# Altium integrated library Renesas Microcontroller R8C.IntLib: 628 symbols (part 27 of 33)
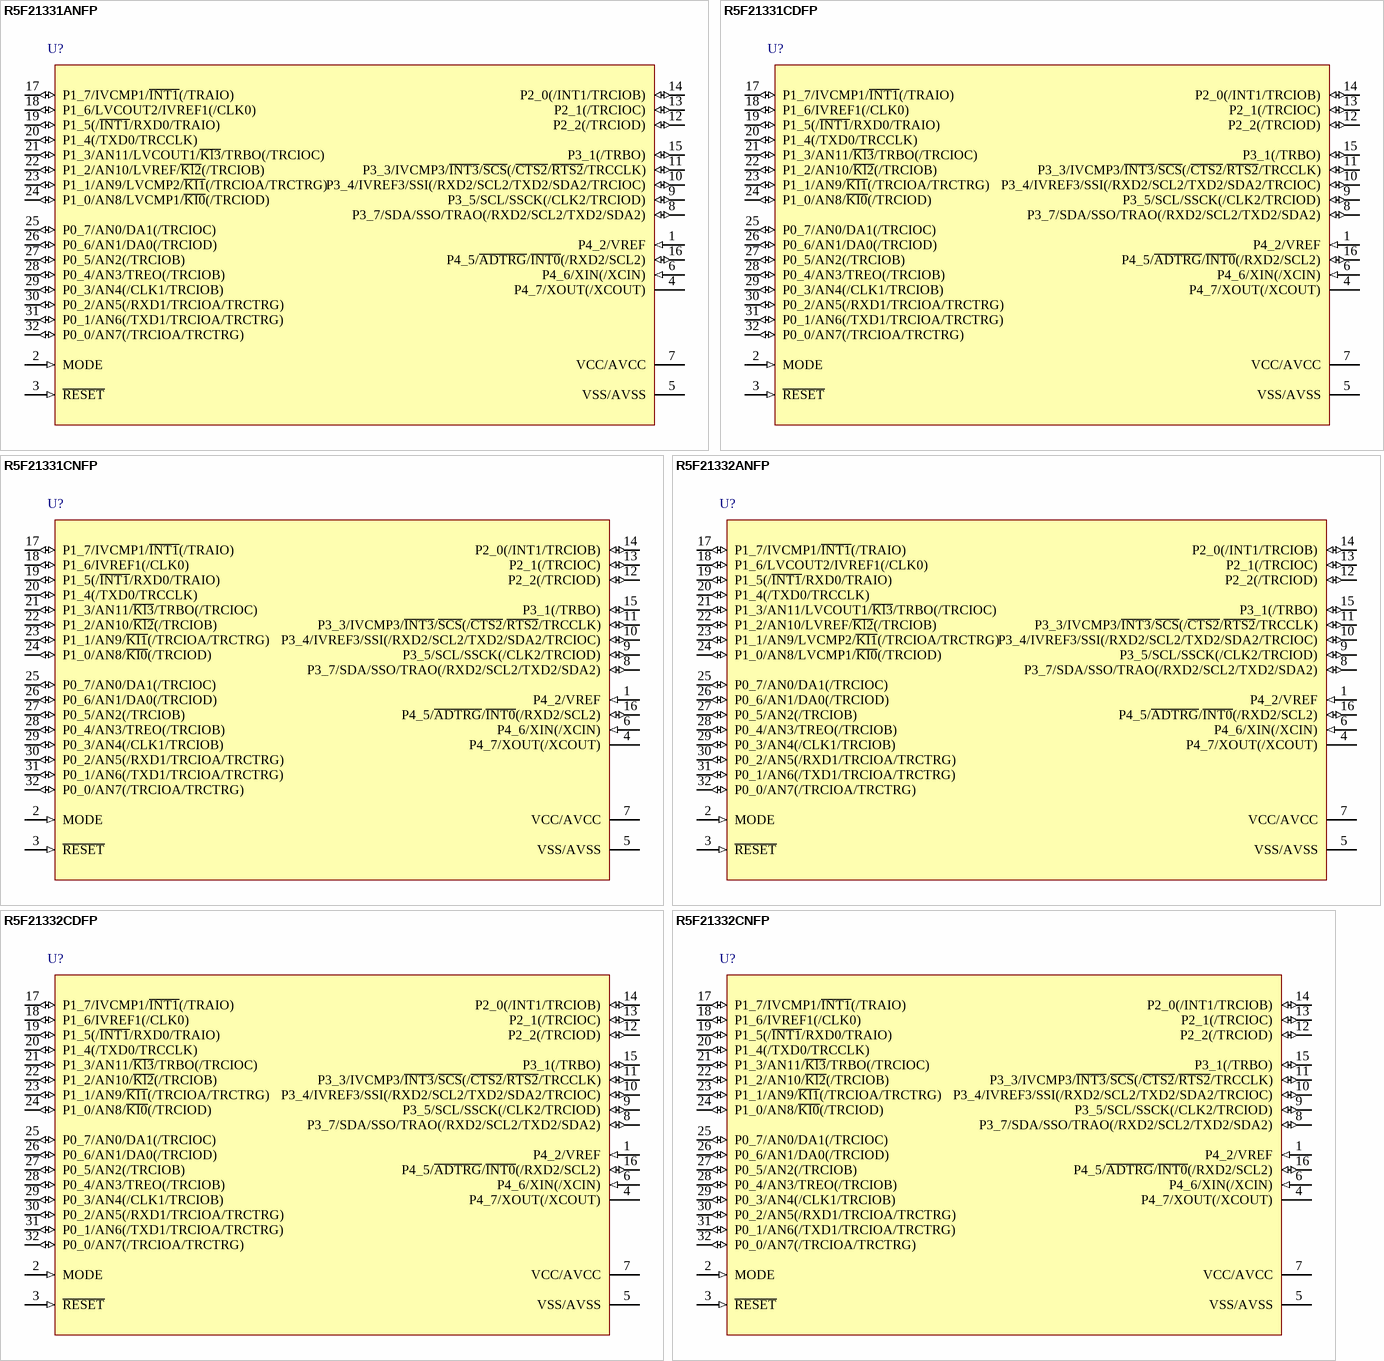
[diagram p142: symbols R5F21331ANFP to R5F21332CNFP]

## R5F21331CNFP
designator U?
R8C/33C Group Single Chip 16-Bit CMOS MCU, 4K + 4K ROM, 512b RAM, N Version; Published: 17-Feb-2010; DatasheetVersion: Rev.1.00, Dec-2009; PackageVersion: Oct-2005; PackageReference: PLQP0032GB-A; Publisher: Altium Limited; PackageDescription: 32-Pin Plastic Low Profile QFP, 7 x 7 x 1.4 mm Body, 0.8 mm Pitch; Code_JEITA: P-LQFP32-7x7-0.80; ComponentLink1Description: Manufacturer Link; ComponentLink1URL: http://sg.renesas.com/fmwk.jsp?cnt=r8c_family_landing.jsp&fp=/products/mpumcu/r8c_family/; ComponentLink2Description: Datasheet; ComponentLink2URL: http://documentation.renesas.com/eng/products/mpumcu/rej09b0570_r8c33chm.pdf; ComponentLink3Description: Packaging Specification; ComponentLink3URL: http://sg.renesas.com/media/products/common_info/package/pdf/ic/code/plqp0032gb_a.pdf
footprint PLQP0032GB-A_N (QFP, 32-Leads, Body 7x7mm, Pitch 0.8mm, IPC Medium Density)
footprint PLQP0032GB-A_L (QFP, 32-Leads, Body 7x7mm, Pitch 0.8mm, IPC High Density)
footprint PLQP0032GB-A_M (QFP, 32-Leads, Body 7x7mm, Pitch 0.8mm, IPC Low Density)
pins: 1 P4_2/VREF (in), 2 MODE (in), 3 ~{RESET} (in), 4 P4_7/XOUT(/XCOUT), 5 VSS/AVSS (power), 6 P4_6/XIN(/XCIN) (in), 7 VCC/AVCC (power), 8 P3_7/SDA/SSO/TRAO(/RXD2/SCL2/TXD2/SDA2) (io), 9 P3_5/SCL/SSCK(/CLK2/TRCIOD) (io), 10 P3_4/IVREF3/SSI(/RXD2/SCL2/TXD2/SDA2/TRCIOC) (io), 11 P3_3/IVCMP3/~{INT3}/~{SCS}(/~{CTS2}/~{RTS2}/TRCCLK) (io), 12 P2_2(/TRCIOD) (io), 13 P2_1(/TRCIOC) (io), 14 P2_0(/INT1/TRCIOB) (io), 15 P3_1(/TRBO) (io), 16 P4_5/~{ADTRG}/~{INT0}(/RXD2/SCL2) (io), 17 P1_7/IVCMP1/~{INT1}(/TRAIO) (io), 18 P1_6/IVREF1(/CLK0) (io), 19 P1_5(/~{INT1}/RXD0/TRAIO) (io), 20 P1_4(/TXD0/TRCCLK) (io), 21 P1_3/AN11/~{Kl3}/TRBO(/TRCIOC) (io), 22 P1_2/AN10/~{Kl2}(/TRCIOB) (io), 23 P1_1/AN9/~{KI1}(/TRCIOA/TRCTRG) (io), 24 P1_0/AN8/~{KI0}(/TRCIOD) (io), 25 P0_7/AN0/DA1(/TRCIOC) (io), 26 P0_6/AN1/DA0(/TRCIOD) (io), 27 P0_5/AN2(/TRCIOB) (io), 28 P0_4/AN3/TREO(/TRCIOB) (io), 29 P0_3/AN4(/CLK1/TRCIOB) (io), 30 P0_2/AN5(/RXD1/TRCIOA/TRCTRG) (io), 31 P0_1/AN6(/TXD1/TRCIOA/TRCTRG) (io), 32 P0_0/AN7(/TRCIOA/TRCTRG) (io)

## R5F21332ANFP
designator U?
R8C/33A Group Single Chip 16-Bit CMOS MCU, 8K ROM + 1K x4 Data Flash, 1K RAM, N Version; Published: 30-Oct-2009; DatasheetVersion: Rev.1.00, Sep-2009; PackageVersion: Oct-2005; PackageReference: PLQP0032GB-A; Publisher: Altium Limited; PackageDescription: 32-Pin Plastic Low Profile QFP, 7 x 7 x 1.4 mm Body, 0.8 mm Pitch; Code_JEITA: P-LQFP32-7x7-0.80; ComponentLink1Description: Manufacturer Link; ComponentLink1URL: http://sg.renesas.com/fmwk.jsp?cnt=r8c_family_landing.jsp&fp=/products/mpumcu/r8c_family/; ComponentLink2Description: Datasheet; ComponentLink2URL: http://documentation.renesas.com/eng/products/mpumcu/rej03b0228_r8c33ads.pdf; ComponentLink3Description: Packaging Specification; ComponentLink3URL: http://sg.renesas.com/media/products/common_info/package/pdf/ic/code/plqp0032gb_a.pdf
footprint PLQP0032GB-A_N (QFP, 32-Leads, Body 7x7mm, Pitch 0.8mm, IPC Medium Density)
footprint PLQP0032GB-A_L (QFP, 32-Leads, Body 7x7mm, Pitch 0.8mm, IPC High Density)
footprint PLQP0032GB-A_M (QFP, 32-Leads, Body 7x7mm, Pitch 0.8mm, IPC Low Density)
pins: 1 P4_2/VREF (in), 2 MODE (in), 3 ~{RESET} (in), 4 P4_7/XOUT(/XCOUT), 5 VSS/AVSS (power), 6 P4_6/XIN(/XCIN) (in), 7 VCC/AVCC (power), 8 P3_7/SDA/SSO/TRAO(/RXD2/SCL2/TXD2/SDA2) (io), 9 P3_5/SCL/SSCK(/CLK2/TRCIOD) (io), 10 P3_4/IVREF3/SSI(/RXD2/SCL2/TXD2/SDA2/TRCIOC) (io), 11 P3_3/IVCMP3/~{INT3}/~{SCS}(/~{CTS2}/~{RTS2}/TRCCLK) (io), 12 P2_2(/TRCIOD) (io), 13 P2_1(/TRCIOC) (io), 14 P2_0(/INT1/TRCIOB) (io), 15 P3_1(/TRBO) (io), 16 P4_5/~{ADTRG}/~{INT0}(/RXD2/SCL2) (io), 17 P1_7/IVCMP1/~{INT1}(/TRAIO) (io), 18 P1_6/LVCOUT2/IVREF1(/CLK0) (io), 19 P1_5(/~{INT1}/RXD0/TRAIO) (io), 20 P1_4(/TXD0/TRCCLK) (io), 21 P1_3/AN11/LVCOUT1/~{Kl3}/TRBO(/TRCIOC) (io), 22 P1_2/AN10/LVREF/~{Kl2}(/TRCIOB) (io), 23 P1_1/AN9/LVCMP2/~{KI1}(/TRCIOA/TRCTRG) (io), 24 P1_0/AN8/LVCMP1/~{KI0}(/TRCIOD) (io), 25 P0_7/AN0/DA1(/TRCIOC) (io), 26 P0_6/AN1/DA0(/TRCIOD) (io), 27 P0_5/AN2(/TRCIOB) (io), 28 P0_4/AN3/TREO(/TRCIOB) (io), 29 P0_3/AN4(/CLK1/TRCIOB) (io), 30 P0_2/AN5(/RXD1/TRCIOA/TRCTRG) (io), 31 P0_1/AN6(/TXD1/TRCIOA/TRCTRG) (io), 32 P0_0/AN7(/TRCIOA/TRCTRG) (io)

## R5F21332CDFP
designator U?
R8C/33C Group Single Chip 16-Bit CMOS MCU, 8K + 4K ROM, 1K RAM, D Version; Published: 17-Feb-2010; DatasheetVersion: Rev.1.00, Dec-2009; PackageVersion: Oct-2005; PackageReference: PLQP0032GB-A; Publisher: Altium Limited; PackageDescription: 32-Pin Plastic Low Profile QFP, 7 x 7 x 1.4 mm Body, 0.8 mm Pitch; Code_JEITA: P-LQFP32-7x7-0.80; ComponentLink1Description: Manufacturer Link; ComponentLink1URL: http://sg.renesas.com/fmwk.jsp?cnt=r8c_family_landing.jsp&fp=/products/mpumcu/r8c_family/; ComponentLink2Description: Datasheet; ComponentLink2URL: http://documentation.renesas.com/eng/products/mpumcu/rej09b0570_r8c33chm.pdf; ComponentLink3Description: Packaging Specification; ComponentLink3URL: http://sg.renesas.com/media/products/common_info/package/pdf/ic/code/plqp0032gb_a.pdf
footprint PLQP0032GB-A_N (QFP, 32-Leads, Body 7x7mm, Pitch 0.8mm, IPC Medium Density)
footprint PLQP0032GB-A_L (QFP, 32-Leads, Body 7x7mm, Pitch 0.8mm, IPC High Density)
footprint PLQP0032GB-A_M (QFP, 32-Leads, Body 7x7mm, Pitch 0.8mm, IPC Low Density)
pins: 1 P4_2/VREF (in), 2 MODE (in), 3 ~{RESET} (in), 4 P4_7/XOUT(/XCOUT), 5 VSS/AVSS (power), 6 P4_6/XIN(/XCIN) (in), 7 VCC/AVCC (power), 8 P3_7/SDA/SSO/TRAO(/RXD2/SCL2/TXD2/SDA2) (io), 9 P3_5/SCL/SSCK(/CLK2/TRCIOD) (io), 10 P3_4/IVREF3/SSI(/RXD2/SCL2/TXD2/SDA2/TRCIOC) (io), 11 P3_3/IVCMP3/~{INT3}/~{SCS}(/~{CTS2}/~{RTS2}/TRCCLK) (io), 12 P2_2(/TRCIOD) (io), 13 P2_1(/TRCIOC) (io), 14 P2_0(/INT1/TRCIOB) (io), 15 P3_1(/TRBO) (io), 16 P4_5/~{ADTRG}/~{INT0}(/RXD2/SCL2) (io), 17 P1_7/IVCMP1/~{INT1}(/TRAIO) (io), 18 P1_6/IVREF1(/CLK0) (io), 19 P1_5(/~{INT1}/RXD0/TRAIO) (io), 20 P1_4(/TXD0/TRCCLK) (io), 21 P1_3/AN11/~{Kl3}/TRBO(/TRCIOC) (io), 22 P1_2/AN10/~{Kl2}(/TRCIOB) (io), 23 P1_1/AN9/~{KI1}(/TRCIOA/TRCTRG) (io), 24 P1_0/AN8/~{KI0}(/TRCIOD) (io), 25 P0_7/AN0/DA1(/TRCIOC) (io), 26 P0_6/AN1/DA0(/TRCIOD) (io), 27 P0_5/AN2(/TRCIOB) (io), 28 P0_4/AN3/TREO(/TRCIOB) (io), 29 P0_3/AN4(/CLK1/TRCIOB) (io), 30 P0_2/AN5(/RXD1/TRCIOA/TRCTRG) (io), 31 P0_1/AN6(/TXD1/TRCIOA/TRCTRG) (io), 32 P0_0/AN7(/TRCIOA/TRCTRG) (io)

## R5F21332CNFP
designator U?
R8C/33C Group Single Chip 16-Bit CMOS MCU, 8K + 4K ROM, 1K RAM, N Version; Published: 17-Feb-2010; DatasheetVersion: Rev.1.00, Dec-2009; PackageVersion: Oct-2005; PackageReference: PLQP0032GB-A; Publisher: Altium Limited; PackageDescription: 32-Pin Plastic Low Profile QFP, 7 x 7 x 1.4 mm Body, 0.8 mm Pitch; Code_JEITA: P-LQFP32-7x7-0.80; ComponentLink1Description: Manufacturer Link; ComponentLink1URL: http://sg.renesas.com/fmwk.jsp?cnt=r8c_family_landing.jsp&fp=/products/mpumcu/r8c_family/; ComponentLink2Description: Datasheet; ComponentLink2URL: http://documentation.renesas.com/eng/products/mpumcu/rej09b0570_r8c33chm.pdf; ComponentLink3Description: Packaging Specification; ComponentLink3URL: http://sg.renesas.com/media/products/common_info/package/pdf/ic/code/plqp0032gb_a.pdf
footprint PLQP0032GB-A_N (QFP, 32-Leads, Body 7x7mm, Pitch 0.8mm, IPC Medium Density)
footprint PLQP0032GB-A_L (QFP, 32-Leads, Body 7x7mm, Pitch 0.8mm, IPC High Density)
footprint PLQP0032GB-A_M (QFP, 32-Leads, Body 7x7mm, Pitch 0.8mm, IPC Low Density)
pins: 1 P4_2/VREF (in), 2 MODE (in), 3 ~{RESET} (in), 4 P4_7/XOUT(/XCOUT), 5 VSS/AVSS (power), 6 P4_6/XIN(/XCIN) (in), 7 VCC/AVCC (power), 8 P3_7/SDA/SSO/TRAO(/RXD2/SCL2/TXD2/SDA2) (io), 9 P3_5/SCL/SSCK(/CLK2/TRCIOD) (io), 10 P3_4/IVREF3/SSI(/RXD2/SCL2/TXD2/SDA2/TRCIOC) (io), 11 P3_3/IVCMP3/~{INT3}/~{SCS}(/~{CTS2}/~{RTS2}/TRCCLK) (io), 12 P2_2(/TRCIOD) (io), 13 P2_1(/TRCIOC) (io), 14 P2_0(/INT1/TRCIOB) (io), 15 P3_1(/TRBO) (io), 16 P4_5/~{ADTRG}/~{INT0}(/RXD2/SCL2) (io), 17 P1_7/IVCMP1/~{INT1}(/TRAIO) (io), 18 P1_6/IVREF1(/CLK0) (io), 19 P1_5(/~{INT1}/RXD0/TRAIO) (io), 20 P1_4(/TXD0/TRCCLK) (io), 21 P1_3/AN11/~{Kl3}/TRBO(/TRCIOC) (io), 22 P1_2/AN10/~{Kl2}(/TRCIOB) (io), 23 P1_1/AN9/~{KI1}(/TRCIOA/TRCTRG) (io), 24 P1_0/AN8/~{KI0}(/TRCIOD) (io), 25 P0_7/AN0/DA1(/TRCIOC) (io), 26 P0_6/AN1/DA0(/TRCIOD) (io), 27 P0_5/AN2(/TRCIOB) (io), 28 P0_4/AN3/TREO(/TRCIOB) (io), 29 P0_3/AN4(/CLK1/TRCIOB) (io), 30 P0_2/AN5(/RXD1/TRCIOA/TRCTRG) (io), 31 P0_1/AN6(/TXD1/TRCIOA/TRCTRG) (io), 32 P0_0/AN7(/TRCIOA/TRCTRG) (io)

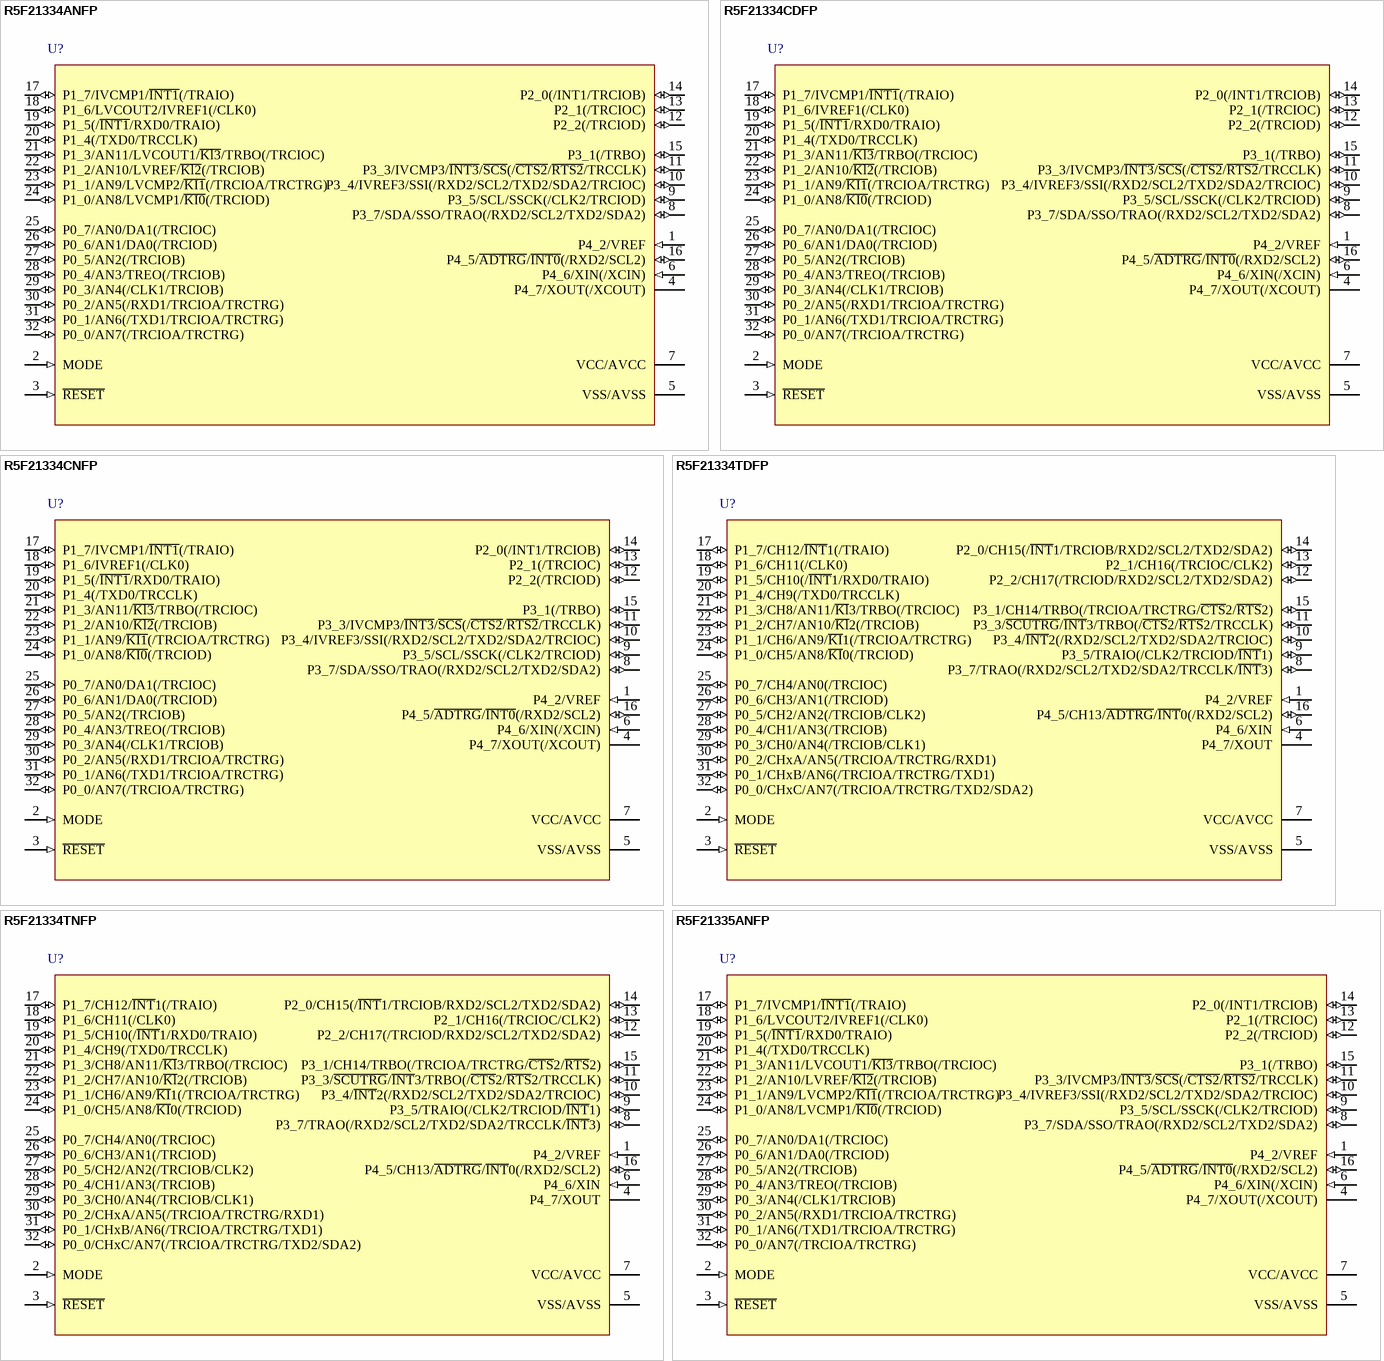
[diagram p92: symbols R5F21334ANFP to R5F21335ANFP]

## R5F21334ANFP
designator U?
R8C/33A Group Single Chip 16-Bit CMOS MCU, 16K ROM + 1K x4 Data Flash, 1.5K RAM, N Version; Published: 30-Oct-2009; DatasheetVersion: Rev.1.00, Sep-2009; PackageVersion: Oct-2005; PackageReference: PLQP0032GB-A; Publisher: Altium Limited; PackageDescription: 32-Pin Plastic Low Profile QFP, 7 x 7 x 1.4 mm Body, 0.8 mm Pitch; Code_JEITA: P-LQFP32-7x7-0.80; ComponentLink1Description: Manufacturer Link; ComponentLink1URL: http://sg.renesas.com/fmwk.jsp?cnt=r8c_family_landing.jsp&fp=/products/mpumcu/r8c_family/; ComponentLink2Description: Datasheet; ComponentLink2URL: http://documentation.renesas.com/eng/products/mpumcu/rej03b0228_r8c33ads.pdf; ComponentLink3Description: Packaging Specification; ComponentLink3URL: http://sg.renesas.com/media/products/common_info/package/pdf/ic/code/plqp0032gb_a.pdf
footprint PLQP0032GB-A_N (QFP, 32-Leads, Body 7x7mm, Pitch 0.8mm, IPC Medium Density)
footprint PLQP0032GB-A_L (QFP, 32-Leads, Body 7x7mm, Pitch 0.8mm, IPC High Density)
footprint PLQP0032GB-A_M (QFP, 32-Leads, Body 7x7mm, Pitch 0.8mm, IPC Low Density)
pins: 1 P4_2/VREF (in), 2 MODE (in), 3 ~{RESET} (in), 4 P4_7/XOUT(/XCOUT), 5 VSS/AVSS (power), 6 P4_6/XIN(/XCIN) (in), 7 VCC/AVCC (power), 8 P3_7/SDA/SSO/TRAO(/RXD2/SCL2/TXD2/SDA2) (io), 9 P3_5/SCL/SSCK(/CLK2/TRCIOD) (io), 10 P3_4/IVREF3/SSI(/RXD2/SCL2/TXD2/SDA2/TRCIOC) (io), 11 P3_3/IVCMP3/~{INT3}/~{SCS}(/~{CTS2}/~{RTS2}/TRCCLK) (io), 12 P2_2(/TRCIOD) (io), 13 P2_1(/TRCIOC) (io), 14 P2_0(/INT1/TRCIOB) (io), 15 P3_1(/TRBO) (io), 16 P4_5/~{ADTRG}/~{INT0}(/RXD2/SCL2) (io), 17 P1_7/IVCMP1/~{INT1}(/TRAIO) (io), 18 P1_6/LVCOUT2/IVREF1(/CLK0) (io), 19 P1_5(/~{INT1}/RXD0/TRAIO) (io), 20 P1_4(/TXD0/TRCCLK) (io), 21 P1_3/AN11/LVCOUT1/~{Kl3}/TRBO(/TRCIOC) (io), 22 P1_2/AN10/LVREF/~{Kl2}(/TRCIOB) (io), 23 P1_1/AN9/LVCMP2/~{KI1}(/TRCIOA/TRCTRG) (io), 24 P1_0/AN8/LVCMP1/~{KI0}(/TRCIOD) (io), 25 P0_7/AN0/DA1(/TRCIOC) (io), 26 P0_6/AN1/DA0(/TRCIOD) (io), 27 P0_5/AN2(/TRCIOB) (io), 28 P0_4/AN3/TREO(/TRCIOB) (io), 29 P0_3/AN4(/CLK1/TRCIOB) (io), 30 P0_2/AN5(/RXD1/TRCIOA/TRCTRG) (io), 31 P0_1/AN6(/TXD1/TRCIOA/TRCTRG) (io), 32 P0_0/AN7(/TRCIOA/TRCTRG) (io)

## R5F21334CDFP
designator U?
R8C/33C Group Single Chip 16-Bit CMOS MCU, 16K + 4K ROM, 1.5K RAM, D Version; Published: 17-Feb-2010; DatasheetVersion: Rev.1.00, Dec-2009; PackageVersion: Oct-2005; PackageReference: PLQP0032GB-A; Publisher: Altium Limited; PackageDescription: 32-Pin Plastic Low Profile QFP, 7 x 7 x 1.4 mm Body, 0.8 mm Pitch; Code_JEITA: P-LQFP32-7x7-0.80; ComponentLink1Description: Manufacturer Link; ComponentLink1URL: http://sg.renesas.com/fmwk.jsp?cnt=r8c_family_landing.jsp&fp=/products/mpumcu/r8c_family/; ComponentLink2Description: Datasheet; ComponentLink2URL: http://documentation.renesas.com/eng/products/mpumcu/rej09b0570_r8c33chm.pdf; ComponentLink3Description: Packaging Specification; ComponentLink3URL: http://sg.renesas.com/media/products/common_info/package/pdf/ic/code/plqp0032gb_a.pdf
footprint PLQP0032GB-A_N (QFP, 32-Leads, Body 7x7mm, Pitch 0.8mm, IPC Medium Density)
footprint PLQP0032GB-A_L (QFP, 32-Leads, Body 7x7mm, Pitch 0.8mm, IPC High Density)
footprint PLQP0032GB-A_M (QFP, 32-Leads, Body 7x7mm, Pitch 0.8mm, IPC Low Density)
pins: 1 P4_2/VREF (in), 2 MODE (in), 3 ~{RESET} (in), 4 P4_7/XOUT(/XCOUT), 5 VSS/AVSS (power), 6 P4_6/XIN(/XCIN) (in), 7 VCC/AVCC (power), 8 P3_7/SDA/SSO/TRAO(/RXD2/SCL2/TXD2/SDA2) (io), 9 P3_5/SCL/SSCK(/CLK2/TRCIOD) (io), 10 P3_4/IVREF3/SSI(/RXD2/SCL2/TXD2/SDA2/TRCIOC) (io), 11 P3_3/IVCMP3/~{INT3}/~{SCS}(/~{CTS2}/~{RTS2}/TRCCLK) (io), 12 P2_2(/TRCIOD) (io), 13 P2_1(/TRCIOC) (io), 14 P2_0(/INT1/TRCIOB) (io), 15 P3_1(/TRBO) (io), 16 P4_5/~{ADTRG}/~{INT0}(/RXD2/SCL2) (io), 17 P1_7/IVCMP1/~{INT1}(/TRAIO) (io), 18 P1_6/IVREF1(/CLK0) (io), 19 P1_5(/~{INT1}/RXD0/TRAIO) (io), 20 P1_4(/TXD0/TRCCLK) (io), 21 P1_3/AN11/~{Kl3}/TRBO(/TRCIOC) (io), 22 P1_2/AN10/~{Kl2}(/TRCIOB) (io), 23 P1_1/AN9/~{KI1}(/TRCIOA/TRCTRG) (io), 24 P1_0/AN8/~{KI0}(/TRCIOD) (io), 25 P0_7/AN0/DA1(/TRCIOC) (io), 26 P0_6/AN1/DA0(/TRCIOD) (io), 27 P0_5/AN2(/TRCIOB) (io), 28 P0_4/AN3/TREO(/TRCIOB) (io), 29 P0_3/AN4(/CLK1/TRCIOB) (io), 30 P0_2/AN5(/RXD1/TRCIOA/TRCTRG) (io), 31 P0_1/AN6(/TXD1/TRCIOA/TRCTRG) (io), 32 P0_0/AN7(/TRCIOA/TRCTRG) (io)

## R5F21334CNFP
designator U?
R8C/33C Group Single Chip 16-Bit CMOS MCU, 16K + 4K ROM, 1.5K RAM, N Version; Published: 17-Feb-2010; DatasheetVersion: Rev.1.00, Dec-2009; PackageVersion: Oct-2005; PackageReference: PLQP0032GB-A; Publisher: Altium Limited; PackageDescription: 32-Pin Plastic Low Profile QFP, 7 x 7 x 1.4 mm Body, 0.8 mm Pitch; Code_JEITA: P-LQFP32-7x7-0.80; ComponentLink1Description: Manufacturer Link; ComponentLink1URL: http://sg.renesas.com/fmwk.jsp?cnt=r8c_family_landing.jsp&fp=/products/mpumcu/r8c_family/; ComponentLink2Description: Datasheet; ComponentLink2URL: http://documentation.renesas.com/eng/products/mpumcu/rej09b0570_r8c33chm.pdf; ComponentLink3Description: Packaging Specification; ComponentLink3URL: http://sg.renesas.com/media/products/common_info/package/pdf/ic/code/plqp0032gb_a.pdf
footprint PLQP0032GB-A_N (QFP, 32-Leads, Body 7x7mm, Pitch 0.8mm, IPC Medium Density)
footprint PLQP0032GB-A_L (QFP, 32-Leads, Body 7x7mm, Pitch 0.8mm, IPC High Density)
footprint PLQP0032GB-A_M (QFP, 32-Leads, Body 7x7mm, Pitch 0.8mm, IPC Low Density)
pins: 1 P4_2/VREF (in), 2 MODE (in), 3 ~{RESET} (in), 4 P4_7/XOUT(/XCOUT), 5 VSS/AVSS (power), 6 P4_6/XIN(/XCIN) (in), 7 VCC/AVCC (power), 8 P3_7/SDA/SSO/TRAO(/RXD2/SCL2/TXD2/SDA2) (io), 9 P3_5/SCL/SSCK(/CLK2/TRCIOD) (io), 10 P3_4/IVREF3/SSI(/RXD2/SCL2/TXD2/SDA2/TRCIOC) (io), 11 P3_3/IVCMP3/~{INT3}/~{SCS}(/~{CTS2}/~{RTS2}/TRCCLK) (io), 12 P2_2(/TRCIOD) (io), 13 P2_1(/TRCIOC) (io), 14 P2_0(/INT1/TRCIOB) (io), 15 P3_1(/TRBO) (io), 16 P4_5/~{ADTRG}/~{INT0}(/RXD2/SCL2) (io), 17 P1_7/IVCMP1/~{INT1}(/TRAIO) (io), 18 P1_6/IVREF1(/CLK0) (io), 19 P1_5(/~{INT1}/RXD0/TRAIO) (io), 20 P1_4(/TXD0/TRCCLK) (io), 21 P1_3/AN11/~{Kl3}/TRBO(/TRCIOC) (io), 22 P1_2/AN10/~{Kl2}(/TRCIOB) (io), 23 P1_1/AN9/~{KI1}(/TRCIOA/TRCTRG) (io), 24 P1_0/AN8/~{KI0}(/TRCIOD) (io), 25 P0_7/AN0/DA1(/TRCIOC) (io), 26 P0_6/AN1/DA0(/TRCIOD) (io), 27 P0_5/AN2(/TRCIOB) (io), 28 P0_4/AN3/TREO(/TRCIOB) (io), 29 P0_3/AN4(/CLK1/TRCIOB) (io), 30 P0_2/AN5(/RXD1/TRCIOA/TRCTRG) (io), 31 P0_1/AN6(/TXD1/TRCIOA/TRCTRG) (io), 32 P0_0/AN7(/TRCIOA/TRCTRG) (io)

## R5F21334TDFP
designator U?
R8C/33T Group Single Chip 16-Bit CMOS MCU, 16K + 4K ROM, 1.5K RAM, D Version; Published: 17-Feb-2010; DatasheetVersion: Rev.0.10, Jul-2009; PackageVersion: Oct-2005; PackageReference: PLQP0032GB-A; Publisher: Altium Limited; PackageDescription: 32-Pin Plastic Low Profile QFP, 7 x 7 x 1.4 mm Body, 0.8 mm Pitch; Code_JEITA: P-LQFP32-7x7-0.80; ComponentLink1Description: Manufacturer Link; ComponentLink1URL: http://sg.renesas.com/fmwk.jsp?cnt=r8c_family_landing.jsp&fp=/products/mpumcu/r8c_family/; ComponentLink2Description: Datasheet; ComponentLink2URL: http://documentation.renesas.com/eng/products/mpumcu/rej09b0544_r8c33thm.pdf; ComponentLink3Description: Packaging Specification; ComponentLink3URL: http://sg.renesas.com/media/products/common_info/package/pdf/ic/code/plqp0032gb_a.pdf
footprint PLQP0032GB-A_N (QFP, 32-Leads, Body 7x7mm, Pitch 0.8mm, IPC Medium Density)
footprint PLQP0032GB-A_L (QFP, 32-Leads, Body 7x7mm, Pitch 0.8mm, IPC High Density)
footprint PLQP0032GB-A_M (QFP, 32-Leads, Body 7x7mm, Pitch 0.8mm, IPC Low Density)
pins: 1 P4_2/VREF (in), 2 MODE (in), 3 ~{RESET} (in), 4 P4_7/XOUT, 5 VSS/AVSS (power), 6 P4_6/XIN (in), 7 VCC/AVCC (power), 8 P3_7/TRAO(/RXD2/SCL2/TXD2/SDA2/TRCCLK/~{INT}3) (io), 9 P3_5/TRAIO(/CLK2/TRCIOD/~{INT}1) (io), 10 P3_4/~{INT}2(/RXD2/SCL2/TXD2/SDA2/TRCIOC) (io), 11 P3_3/~{SCUTRG}/~{INT}3/TRBO(/~{CTS}2/~{RTS}2/TRCCLK) (io), 12 P2_2/CH17(/TRCIOD/RXD2/SCL2/TXD2/SDA2) (io), 13 P2_1/CH16(/TRCIOC/CLK2) (io), 14 P2_0/CH15(/~{INT}1/TRCIOB/RXD2/SCL2/TXD2/SDA2) (io), 15 P3_1/CH14/TRBO(/TRCIOA/TRCTRG/~{CTS}2/~{RTS}2) (io), 16 P4_5/CH13/~{ADTRG}/~{INT}0(/RXD2/SCL2) (io), 17 P1_7/CH12/~{INT}1(/TRAIO) (io), 18 P1_6/CH11(/CLK0) (io), 19 P1_5/CH10(/~{INT}1/RXD0/TRAIO) (io), 20 P1_4/CH9(/TXD0/TRCCLK) (io), 21 P1_3/CH8/AN11/~{Kl}3/TRBO(/TRCIOC) (io), 22 P1_2/CH7/AN10/~{Kl}2(/TRCIOB) (io), 23 P1_1/CH6/AN9/~{KI}1(/TRCIOA/TRCTRG) (io), 24 P1_0/CH5/AN8/~{KI}0(/TRCIOD) (io), 25 P0_7/CH4/AN0(/TRCIOC) (io), 26 P0_6/CH3/AN1(/TRCIOD) (io), 27 P0_5/CH2/AN2(/TRCIOB/CLK2) (io), 28 P0_4/CH1/AN3(/TRCIOB) (io), 29 P0_3/CH0/AN4(/TRCIOB/CLK1) (io), 30 P0_2/CHxA/AN5(/TRCIOA/TRCTRG/RXD1) (io), 31 P0_1/CHxB/AN6(/TRCIOA/TRCTRG/TXD1) (io), 32 P0_0/CHxC/AN7(/TRCIOA/TRCTRG/TXD2/SDA2) (io)

## R5F21334TNFP
designator U?
R8C/33T Group Single Chip 16-Bit CMOS MCU, 16K + 4K ROM, 1.5K RAM, N Version; Published: 17-Feb-2010; DatasheetVersion: Rev.0.10, Jul-2009; PackageVersion: Oct-2005; PackageReference: PLQP0032GB-A; Publisher: Altium Limited; PackageDescription: 32-Pin Plastic Low Profile QFP, 7 x 7 x 1.4 mm Body, 0.8 mm Pitch; Code_JEITA: P-LQFP32-7x7-0.80; ComponentLink1Description: Manufacturer Link; ComponentLink1URL: http://sg.renesas.com/fmwk.jsp?cnt=r8c_family_landing.jsp&fp=/products/mpumcu/r8c_family/; ComponentLink2Description: Datasheet; ComponentLink2URL: http://documentation.renesas.com/eng/products/mpumcu/rej09b0544_r8c33thm.pdf; ComponentLink3Description: Packaging Specification; ComponentLink3URL: http://sg.renesas.com/media/products/common_info/package/pdf/ic/code/plqp0032gb_a.pdf
footprint PLQP0032GB-A_N (QFP, 32-Leads, Body 7x7mm, Pitch 0.8mm, IPC Medium Density)
footprint PLQP0032GB-A_L (QFP, 32-Leads, Body 7x7mm, Pitch 0.8mm, IPC High Density)
footprint PLQP0032GB-A_M (QFP, 32-Leads, Body 7x7mm, Pitch 0.8mm, IPC Low Density)
pins: 1 P4_2/VREF (in), 2 MODE (in), 3 ~{RESET} (in), 4 P4_7/XOUT, 5 VSS/AVSS (power), 6 P4_6/XIN (in), 7 VCC/AVCC (power), 8 P3_7/TRAO(/RXD2/SCL2/TXD2/SDA2/TRCCLK/~{INT}3) (io), 9 P3_5/TRAIO(/CLK2/TRCIOD/~{INT}1) (io), 10 P3_4/~{INT}2(/RXD2/SCL2/TXD2/SDA2/TRCIOC) (io), 11 P3_3/~{SCUTRG}/~{INT}3/TRBO(/~{CTS}2/~{RTS}2/TRCCLK) (io), 12 P2_2/CH17(/TRCIOD/RXD2/SCL2/TXD2/SDA2) (io), 13 P2_1/CH16(/TRCIOC/CLK2) (io), 14 P2_0/CH15(/~{INT}1/TRCIOB/RXD2/SCL2/TXD2/SDA2) (io), 15 P3_1/CH14/TRBO(/TRCIOA/TRCTRG/~{CTS}2/~{RTS}2) (io), 16 P4_5/CH13/~{ADTRG}/~{INT}0(/RXD2/SCL2) (io), 17 P1_7/CH12/~{INT}1(/TRAIO) (io), 18 P1_6/CH11(/CLK0) (io), 19 P1_5/CH10(/~{INT}1/RXD0/TRAIO) (io), 20 P1_4/CH9(/TXD0/TRCCLK) (io), 21 P1_3/CH8/AN11/~{Kl}3/TRBO(/TRCIOC) (io), 22 P1_2/CH7/AN10/~{Kl}2(/TRCIOB) (io), 23 P1_1/CH6/AN9/~{KI}1(/TRCIOA/TRCTRG) (io), 24 P1_0/CH5/AN8/~{KI}0(/TRCIOD) (io), 25 P0_7/CH4/AN0(/TRCIOC) (io), 26 P0_6/CH3/AN1(/TRCIOD) (io), 27 P0_5/CH2/AN2(/TRCIOB/CLK2) (io), 28 P0_4/CH1/AN3(/TRCIOB) (io), 29 P0_3/CH0/AN4(/TRCIOB/CLK1) (io), 30 P0_2/CHxA/AN5(/TRCIOA/TRCTRG/RXD1) (io), 31 P0_1/CHxB/AN6(/TRCIOA/TRCTRG/TXD1) (io), 32 P0_0/CHxC/AN7(/TRCIOA/TRCTRG/TXD2/SDA2) (io)

## R5F21335ANFP
designator U?
R8C/33A Group Single Chip 16-Bit CMOS MCU, 24K ROM + 1K x4 Data Flash, 2K RAM, N Version; Published: 30-Oct-2009; DatasheetVersion: Rev.1.00, Sep-2009; PackageVersion: Oct-2005; PackageReference: PLQP0032GB-A; Publisher: Altium Limited; PackageDescription: 32-Pin Plastic Low Profile QFP, 7 x 7 x 1.4 mm Body, 0.8 mm Pitch; Code_JEITA: P-LQFP32-7x7-0.80; ComponentLink1Description: Manufacturer Link; ComponentLink1URL: http://sg.renesas.com/fmwk.jsp?cnt=r8c_family_landing.jsp&fp=/products/mpumcu/r8c_family/; ComponentLink2Description: Datasheet; ComponentLink2URL: http://documentation.renesas.com/eng/products/mpumcu/rej03b0228_r8c33ads.pdf; ComponentLink3Description: Packaging Specification; ComponentLink3URL: http://sg.renesas.com/media/products/common_info/package/pdf/ic/code/plqp0032gb_a.pdf
footprint PLQP0032GB-A_N (QFP, 32-Leads, Body 7x7mm, Pitch 0.8mm, IPC Medium Density)
footprint PLQP0032GB-A_L (QFP, 32-Leads, Body 7x7mm, Pitch 0.8mm, IPC High Density)
footprint PLQP0032GB-A_M (QFP, 32-Leads, Body 7x7mm, Pitch 0.8mm, IPC Low Density)
pins: 1 P4_2/VREF (in), 2 MODE (in), 3 ~{RESET} (in), 4 P4_7/XOUT(/XCOUT), 5 VSS/AVSS (power), 6 P4_6/XIN(/XCIN) (in), 7 VCC/AVCC (power), 8 P3_7/SDA/SSO/TRAO(/RXD2/SCL2/TXD2/SDA2) (io), 9 P3_5/SCL/SSCK(/CLK2/TRCIOD) (io), 10 P3_4/IVREF3/SSI(/RXD2/SCL2/TXD2/SDA2/TRCIOC) (io), 11 P3_3/IVCMP3/~{INT3}/~{SCS}(/~{CTS2}/~{RTS2}/TRCCLK) (io), 12 P2_2(/TRCIOD) (io), 13 P2_1(/TRCIOC) (io), 14 P2_0(/INT1/TRCIOB) (io), 15 P3_1(/TRBO) (io), 16 P4_5/~{ADTRG}/~{INT0}(/RXD2/SCL2) (io), 17 P1_7/IVCMP1/~{INT1}(/TRAIO) (io), 18 P1_6/LVCOUT2/IVREF1(/CLK0) (io), 19 P1_5(/~{INT1}/RXD0/TRAIO) (io), 20 P1_4(/TXD0/TRCCLK) (io), 21 P1_3/AN11/LVCOUT1/~{Kl3}/TRBO(/TRCIOC) (io), 22 P1_2/AN10/LVREF/~{Kl2}(/TRCIOB) (io), 23 P1_1/AN9/LVCMP2/~{KI1}(/TRCIOA/TRCTRG) (io), 24 P1_0/AN8/LVCMP1/~{KI0}(/TRCIOD) (io), 25 P0_7/AN0/DA1(/TRCIOC) (io), 26 P0_6/AN1/DA0(/TRCIOD) (io), 27 P0_5/AN2(/TRCIOB) (io), 28 P0_4/AN3/TREO(/TRCIOB) (io), 29 P0_3/AN4(/CLK1/TRCIOB) (io), 30 P0_2/AN5(/RXD1/TRCIOA/TRCTRG) (io), 31 P0_1/AN6(/TXD1/TRCIOA/TRCTRG) (io), 32 P0_0/AN7(/TRCIOA/TRCTRG) (io)

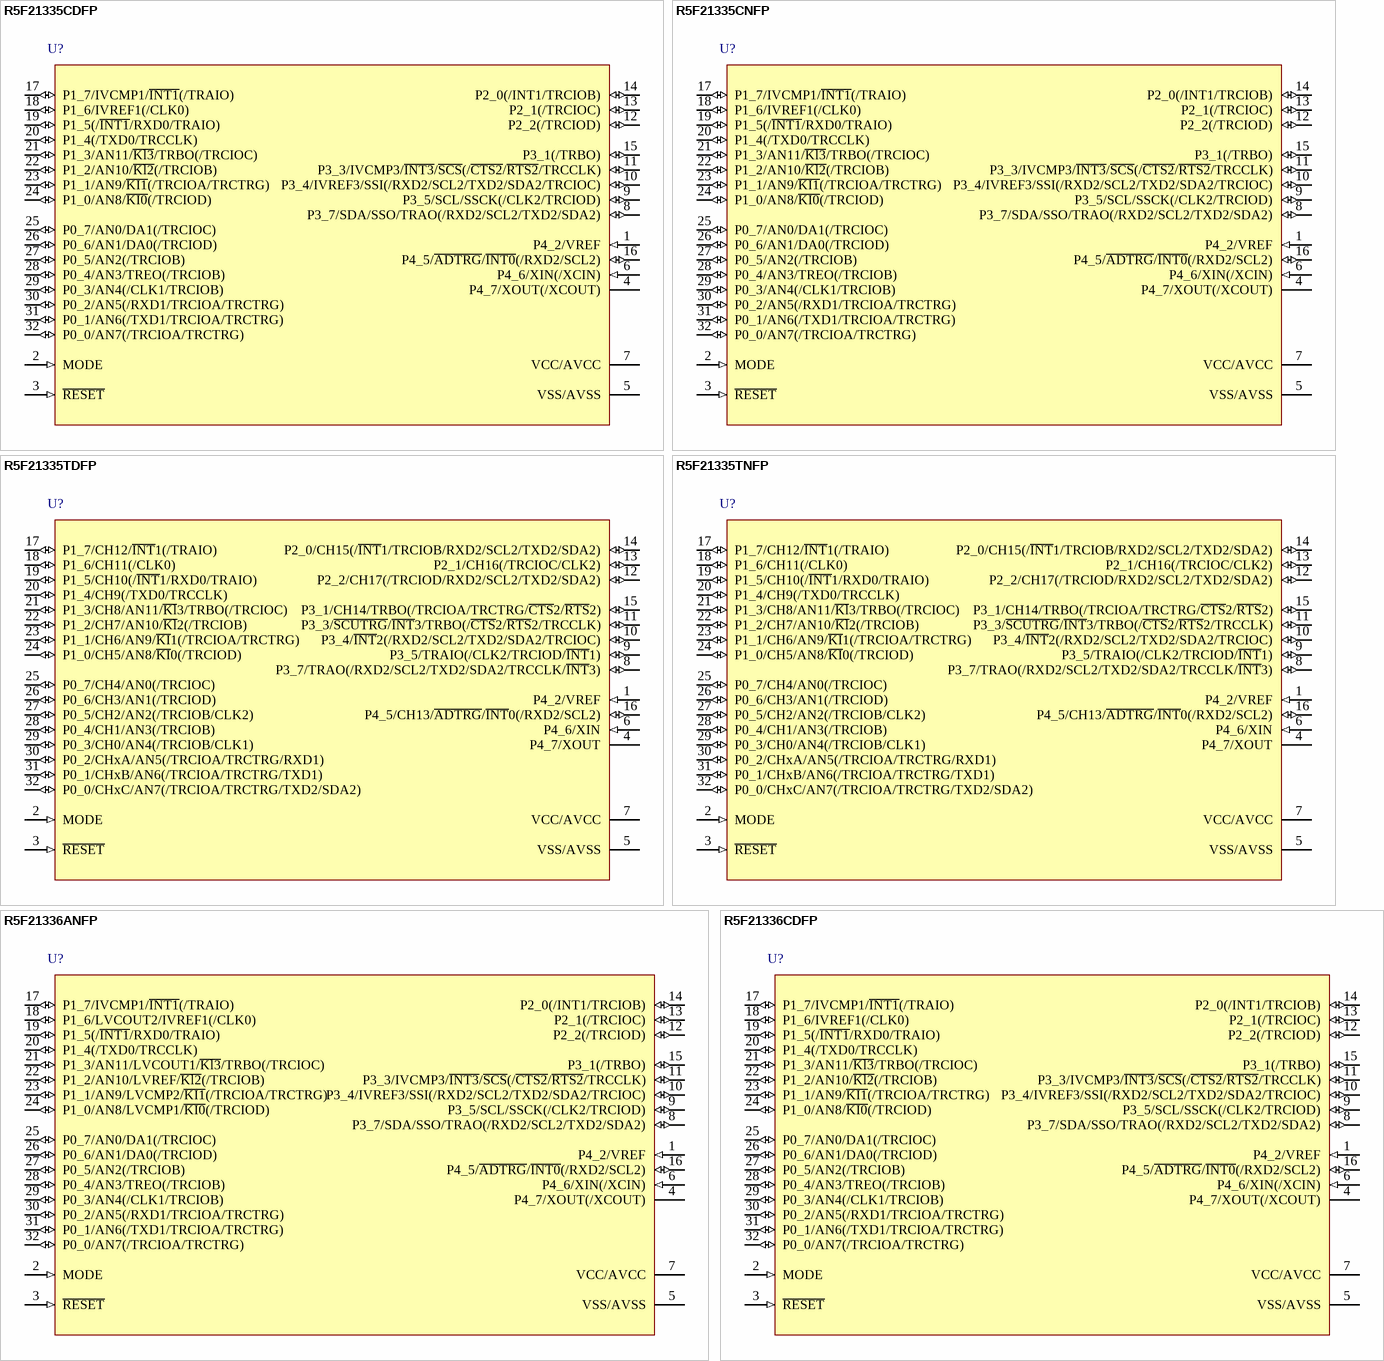
[diagram p93: symbols R5F21335CDFP to R5F21336CDFP]

## R5F21335CDFP
designator U?
R8C/33C Group Single Chip 16-Bit CMOS MCU, 24K + 4K ROM, 2K RAM, D Version; Published: 17-Feb-2010; DatasheetVersion: Rev.1.00, Dec-2009; PackageVersion: Oct-2005; PackageReference: PLQP0032GB-A; Publisher: Altium Limited; PackageDescription: 32-Pin Plastic Low Profile QFP, 7 x 7 x 1.4 mm Body, 0.8 mm Pitch; Code_JEITA: P-LQFP32-7x7-0.80; ComponentLink1Description: Manufacturer Link; ComponentLink1URL: http://sg.renesas.com/fmwk.jsp?cnt=r8c_family_landing.jsp&fp=/products/mpumcu/r8c_family/; ComponentLink2Description: Datasheet; ComponentLink2URL: http://documentation.renesas.com/eng/products/mpumcu/rej09b0570_r8c33chm.pdf; ComponentLink3Description: Packaging Specification; ComponentLink3URL: http://sg.renesas.com/media/products/common_info/package/pdf/ic/code/plqp0032gb_a.pdf
footprint PLQP0032GB-A_N (QFP, 32-Leads, Body 7x7mm, Pitch 0.8mm, IPC Medium Density)
footprint PLQP0032GB-A_L (QFP, 32-Leads, Body 7x7mm, Pitch 0.8mm, IPC High Density)
footprint PLQP0032GB-A_M (QFP, 32-Leads, Body 7x7mm, Pitch 0.8mm, IPC Low Density)
pins: 1 P4_2/VREF (in), 2 MODE (in), 3 ~{RESET} (in), 4 P4_7/XOUT(/XCOUT), 5 VSS/AVSS (power), 6 P4_6/XIN(/XCIN) (in), 7 VCC/AVCC (power), 8 P3_7/SDA/SSO/TRAO(/RXD2/SCL2/TXD2/SDA2) (io), 9 P3_5/SCL/SSCK(/CLK2/TRCIOD) (io), 10 P3_4/IVREF3/SSI(/RXD2/SCL2/TXD2/SDA2/TRCIOC) (io), 11 P3_3/IVCMP3/~{INT3}/~{SCS}(/~{CTS2}/~{RTS2}/TRCCLK) (io), 12 P2_2(/TRCIOD) (io), 13 P2_1(/TRCIOC) (io), 14 P2_0(/INT1/TRCIOB) (io), 15 P3_1(/TRBO) (io), 16 P4_5/~{ADTRG}/~{INT0}(/RXD2/SCL2) (io), 17 P1_7/IVCMP1/~{INT1}(/TRAIO) (io), 18 P1_6/IVREF1(/CLK0) (io), 19 P1_5(/~{INT1}/RXD0/TRAIO) (io), 20 P1_4(/TXD0/TRCCLK) (io), 21 P1_3/AN11/~{Kl3}/TRBO(/TRCIOC) (io), 22 P1_2/AN10/~{Kl2}(/TRCIOB) (io), 23 P1_1/AN9/~{KI1}(/TRCIOA/TRCTRG) (io), 24 P1_0/AN8/~{KI0}(/TRCIOD) (io), 25 P0_7/AN0/DA1(/TRCIOC) (io), 26 P0_6/AN1/DA0(/TRCIOD) (io), 27 P0_5/AN2(/TRCIOB) (io), 28 P0_4/AN3/TREO(/TRCIOB) (io), 29 P0_3/AN4(/CLK1/TRCIOB) (io), 30 P0_2/AN5(/RXD1/TRCIOA/TRCTRG) (io), 31 P0_1/AN6(/TXD1/TRCIOA/TRCTRG) (io), 32 P0_0/AN7(/TRCIOA/TRCTRG) (io)

## R5F21335CNFP
designator U?
R8C/33C Group Single Chip 16-Bit CMOS MCU, 24K + 4K ROM, 2K RAM, N Version; Published: 17-Feb-2010; DatasheetVersion: Rev.1.00, Dec-2009; PackageVersion: Oct-2005; PackageReference: PLQP0032GB-A; Publisher: Altium Limited; PackageDescription: 32-Pin Plastic Low Profile QFP, 7 x 7 x 1.4 mm Body, 0.8 mm Pitch; Code_JEITA: P-LQFP32-7x7-0.80; ComponentLink1Description: Manufacturer Link; ComponentLink1URL: http://sg.renesas.com/fmwk.jsp?cnt=r8c_family_landing.jsp&fp=/products/mpumcu/r8c_family/; ComponentLink2Description: Datasheet; ComponentLink2URL: http://documentation.renesas.com/eng/products/mpumcu/rej09b0570_r8c33chm.pdf; ComponentLink3Description: Packaging Specification; ComponentLink3URL: http://sg.renesas.com/media/products/common_info/package/pdf/ic/code/plqp0032gb_a.pdf
footprint PLQP0032GB-A_N (QFP, 32-Leads, Body 7x7mm, Pitch 0.8mm, IPC Medium Density)
footprint PLQP0032GB-A_L (QFP, 32-Leads, Body 7x7mm, Pitch 0.8mm, IPC High Density)
footprint PLQP0032GB-A_M (QFP, 32-Leads, Body 7x7mm, Pitch 0.8mm, IPC Low Density)
pins: 1 P4_2/VREF (in), 2 MODE (in), 3 ~{RESET} (in), 4 P4_7/XOUT(/XCOUT), 5 VSS/AVSS (power), 6 P4_6/XIN(/XCIN) (in), 7 VCC/AVCC (power), 8 P3_7/SDA/SSO/TRAO(/RXD2/SCL2/TXD2/SDA2) (io), 9 P3_5/SCL/SSCK(/CLK2/TRCIOD) (io), 10 P3_4/IVREF3/SSI(/RXD2/SCL2/TXD2/SDA2/TRCIOC) (io), 11 P3_3/IVCMP3/~{INT3}/~{SCS}(/~{CTS2}/~{RTS2}/TRCCLK) (io), 12 P2_2(/TRCIOD) (io), 13 P2_1(/TRCIOC) (io), 14 P2_0(/INT1/TRCIOB) (io), 15 P3_1(/TRBO) (io), 16 P4_5/~{ADTRG}/~{INT0}(/RXD2/SCL2) (io), 17 P1_7/IVCMP1/~{INT1}(/TRAIO) (io), 18 P1_6/IVREF1(/CLK0) (io), 19 P1_5(/~{INT1}/RXD0/TRAIO) (io), 20 P1_4(/TXD0/TRCCLK) (io), 21 P1_3/AN11/~{Kl3}/TRBO(/TRCIOC) (io), 22 P1_2/AN10/~{Kl2}(/TRCIOB) (io), 23 P1_1/AN9/~{KI1}(/TRCIOA/TRCTRG) (io), 24 P1_0/AN8/~{KI0}(/TRCIOD) (io), 25 P0_7/AN0/DA1(/TRCIOC) (io), 26 P0_6/AN1/DA0(/TRCIOD) (io), 27 P0_5/AN2(/TRCIOB) (io), 28 P0_4/AN3/TREO(/TRCIOB) (io), 29 P0_3/AN4(/CLK1/TRCIOB) (io), 30 P0_2/AN5(/RXD1/TRCIOA/TRCTRG) (io), 31 P0_1/AN6(/TXD1/TRCIOA/TRCTRG) (io), 32 P0_0/AN7(/TRCIOA/TRCTRG) (io)

## R5F21335TDFP
designator U?
R8C/33T Group Single Chip 16-Bit CMOS MCU, 24K + 4K ROM, 2K RAM, D Version; Published: 17-Feb-2010; DatasheetVersion: Rev.0.10, Jul-2009; PackageVersion: Oct-2005; PackageReference: PLQP0032GB-A; Publisher: Altium Limited; PackageDescription: 32-Pin Plastic Low Profile QFP, 7 x 7 x 1.4 mm Body, 0.8 mm Pitch; Code_JEITA: P-LQFP32-7x7-0.80; ComponentLink1Description: Manufacturer Link; ComponentLink1URL: http://sg.renesas.com/fmwk.jsp?cnt=r8c_family_landing.jsp&fp=/products/mpumcu/r8c_family/; ComponentLink2Description: Datasheet; ComponentLink2URL: http://documentation.renesas.com/eng/products/mpumcu/rej09b0544_r8c33thm.pdf; ComponentLink3Description: Packaging Specification; ComponentLink3URL: http://sg.renesas.com/media/products/common_info/package/pdf/ic/code/plqp0032gb_a.pdf
footprint PLQP0032GB-A_N (QFP, 32-Leads, Body 7x7mm, Pitch 0.8mm, IPC Medium Density)
footprint PLQP0032GB-A_L (QFP, 32-Leads, Body 7x7mm, Pitch 0.8mm, IPC High Density)
footprint PLQP0032GB-A_M (QFP, 32-Leads, Body 7x7mm, Pitch 0.8mm, IPC Low Density)
pins: 1 P4_2/VREF (in), 2 MODE (in), 3 ~{RESET} (in), 4 P4_7/XOUT, 5 VSS/AVSS (power), 6 P4_6/XIN (in), 7 VCC/AVCC (power), 8 P3_7/TRAO(/RXD2/SCL2/TXD2/SDA2/TRCCLK/~{INT}3) (io), 9 P3_5/TRAIO(/CLK2/TRCIOD/~{INT}1) (io), 10 P3_4/~{INT}2(/RXD2/SCL2/TXD2/SDA2/TRCIOC) (io), 11 P3_3/~{SCUTRG}/~{INT}3/TRBO(/~{CTS}2/~{RTS}2/TRCCLK) (io), 12 P2_2/CH17(/TRCIOD/RXD2/SCL2/TXD2/SDA2) (io), 13 P2_1/CH16(/TRCIOC/CLK2) (io), 14 P2_0/CH15(/~{INT}1/TRCIOB/RXD2/SCL2/TXD2/SDA2) (io), 15 P3_1/CH14/TRBO(/TRCIOA/TRCTRG/~{CTS}2/~{RTS}2) (io), 16 P4_5/CH13/~{ADTRG}/~{INT}0(/RXD2/SCL2) (io), 17 P1_7/CH12/~{INT}1(/TRAIO) (io), 18 P1_6/CH11(/CLK0) (io), 19 P1_5/CH10(/~{INT}1/RXD0/TRAIO) (io), 20 P1_4/CH9(/TXD0/TRCCLK) (io), 21 P1_3/CH8/AN11/~{Kl}3/TRBO(/TRCIOC) (io), 22 P1_2/CH7/AN10/~{Kl}2(/TRCIOB) (io), 23 P1_1/CH6/AN9/~{KI}1(/TRCIOA/TRCTRG) (io), 24 P1_0/CH5/AN8/~{KI}0(/TRCIOD) (io), 25 P0_7/CH4/AN0(/TRCIOC) (io), 26 P0_6/CH3/AN1(/TRCIOD) (io), 27 P0_5/CH2/AN2(/TRCIOB/CLK2) (io), 28 P0_4/CH1/AN3(/TRCIOB) (io), 29 P0_3/CH0/AN4(/TRCIOB/CLK1) (io), 30 P0_2/CHxA/AN5(/TRCIOA/TRCTRG/RXD1) (io), 31 P0_1/CHxB/AN6(/TRCIOA/TRCTRG/TXD1) (io), 32 P0_0/CHxC/AN7(/TRCIOA/TRCTRG/TXD2/SDA2) (io)

## R5F21335TNFP
designator U?
R8C/33T Group Single Chip 16-Bit CMOS MCU, 24K + 4K ROM, 2K RAM, N Version; Published: 17-Feb-2010; DatasheetVersion: Rev.0.10, Jul-2009; PackageVersion: Oct-2005; PackageReference: PLQP0032GB-A; Publisher: Altium Limited; PackageDescription: 32-Pin Plastic Low Profile QFP, 7 x 7 x 1.4 mm Body, 0.8 mm Pitch; Code_JEITA: P-LQFP32-7x7-0.80; ComponentLink1Description: Manufacturer Link; ComponentLink1URL: http://sg.renesas.com/fmwk.jsp?cnt=r8c_family_landing.jsp&fp=/products/mpumcu/r8c_family/; ComponentLink2Description: Datasheet; ComponentLink2URL: http://documentation.renesas.com/eng/products/mpumcu/rej09b0544_r8c33thm.pdf; ComponentLink3Description: Packaging Specification; ComponentLink3URL: http://sg.renesas.com/media/products/common_info/package/pdf/ic/code/plqp0032gb_a.pdf
footprint PLQP0032GB-A_N (QFP, 32-Leads, Body 7x7mm, Pitch 0.8mm, IPC Medium Density)
footprint PLQP0032GB-A_L (QFP, 32-Leads, Body 7x7mm, Pitch 0.8mm, IPC High Density)
footprint PLQP0032GB-A_M (QFP, 32-Leads, Body 7x7mm, Pitch 0.8mm, IPC Low Density)
pins: 1 P4_2/VREF (in), 2 MODE (in), 3 ~{RESET} (in), 4 P4_7/XOUT, 5 VSS/AVSS (power), 6 P4_6/XIN (in), 7 VCC/AVCC (power), 8 P3_7/TRAO(/RXD2/SCL2/TXD2/SDA2/TRCCLK/~{INT}3) (io), 9 P3_5/TRAIO(/CLK2/TRCIOD/~{INT}1) (io), 10 P3_4/~{INT}2(/RXD2/SCL2/TXD2/SDA2/TRCIOC) (io), 11 P3_3/~{SCUTRG}/~{INT}3/TRBO(/~{CTS}2/~{RTS}2/TRCCLK) (io), 12 P2_2/CH17(/TRCIOD/RXD2/SCL2/TXD2/SDA2) (io), 13 P2_1/CH16(/TRCIOC/CLK2) (io), 14 P2_0/CH15(/~{INT}1/TRCIOB/RXD2/SCL2/TXD2/SDA2) (io), 15 P3_1/CH14/TRBO(/TRCIOA/TRCTRG/~{CTS}2/~{RTS}2) (io), 16 P4_5/CH13/~{ADTRG}/~{INT}0(/RXD2/SCL2) (io), 17 P1_7/CH12/~{INT}1(/TRAIO) (io), 18 P1_6/CH11(/CLK0) (io), 19 P1_5/CH10(/~{INT}1/RXD0/TRAIO) (io), 20 P1_4/CH9(/TXD0/TRCCLK) (io), 21 P1_3/CH8/AN11/~{Kl}3/TRBO(/TRCIOC) (io), 22 P1_2/CH7/AN10/~{Kl}2(/TRCIOB) (io), 23 P1_1/CH6/AN9/~{KI}1(/TRCIOA/TRCTRG) (io), 24 P1_0/CH5/AN8/~{KI}0(/TRCIOD) (io), 25 P0_7/CH4/AN0(/TRCIOC) (io), 26 P0_6/CH3/AN1(/TRCIOD) (io), 27 P0_5/CH2/AN2(/TRCIOB/CLK2) (io), 28 P0_4/CH1/AN3(/TRCIOB) (io), 29 P0_3/CH0/AN4(/TRCIOB/CLK1) (io), 30 P0_2/CHxA/AN5(/TRCIOA/TRCTRG/RXD1) (io), 31 P0_1/CHxB/AN6(/TRCIOA/TRCTRG/TXD1) (io), 32 P0_0/CHxC/AN7(/TRCIOA/TRCTRG/TXD2/SDA2) (io)

## R5F21336ANFP
designator U?
R8C/33A Group Single Chip 16-Bit CMOS MCU, 32K ROM + 1K x4 Data Flash, 2.5K RAM, N Version; Published: 30-Oct-2009; DatasheetVersion: Rev.1.00, Sep-2009; PackageVersion: Oct-2005; PackageReference: PLQP0032GB-A; Publisher: Altium Limited; PackageDescription: 32-Pin Plastic Low Profile QFP, 7 x 7 x 1.4 mm Body, 0.8 mm Pitch; Code_JEITA: P-LQFP32-7x7-0.80; ComponentLink1Description: Manufacturer Link; ComponentLink1URL: http://sg.renesas.com/fmwk.jsp?cnt=r8c_family_landing.jsp&fp=/products/mpumcu/r8c_family/; ComponentLink2Description: Datasheet; ComponentLink2URL: http://documentation.renesas.com/eng/products/mpumcu/rej03b0228_r8c33ads.pdf; ComponentLink3Description: Packaging Specification; ComponentLink3URL: http://sg.renesas.com/media/products/common_info/package/pdf/ic/code/plqp0032gb_a.pdf
footprint PLQP0032GB-A_N (QFP, 32-Leads, Body 7x7mm, Pitch 0.8mm, IPC Medium Density)
footprint PLQP0032GB-A_L (QFP, 32-Leads, Body 7x7mm, Pitch 0.8mm, IPC High Density)
footprint PLQP0032GB-A_M (QFP, 32-Leads, Body 7x7mm, Pitch 0.8mm, IPC Low Density)
pins: 1 P4_2/VREF (in), 2 MODE (in), 3 ~{RESET} (in), 4 P4_7/XOUT(/XCOUT), 5 VSS/AVSS (power), 6 P4_6/XIN(/XCIN) (in), 7 VCC/AVCC (power), 8 P3_7/SDA/SSO/TRAO(/RXD2/SCL2/TXD2/SDA2) (io), 9 P3_5/SCL/SSCK(/CLK2/TRCIOD) (io), 10 P3_4/IVREF3/SSI(/RXD2/SCL2/TXD2/SDA2/TRCIOC) (io), 11 P3_3/IVCMP3/~{INT3}/~{SCS}(/~{CTS2}/~{RTS2}/TRCCLK) (io), 12 P2_2(/TRCIOD) (io), 13 P2_1(/TRCIOC) (io), 14 P2_0(/INT1/TRCIOB) (io), 15 P3_1(/TRBO) (io), 16 P4_5/~{ADTRG}/~{INT0}(/RXD2/SCL2) (io), 17 P1_7/IVCMP1/~{INT1}(/TRAIO) (io), 18 P1_6/LVCOUT2/IVREF1(/CLK0) (io), 19 P1_5(/~{INT1}/RXD0/TRAIO) (io), 20 P1_4(/TXD0/TRCCLK) (io), 21 P1_3/AN11/LVCOUT1/~{Kl3}/TRBO(/TRCIOC) (io), 22 P1_2/AN10/LVREF/~{Kl2}(/TRCIOB) (io), 23 P1_1/AN9/LVCMP2/~{KI1}(/TRCIOA/TRCTRG) (io), 24 P1_0/AN8/LVCMP1/~{KI0}(/TRCIOD) (io), 25 P0_7/AN0/DA1(/TRCIOC) (io), 26 P0_6/AN1/DA0(/TRCIOD) (io), 27 P0_5/AN2(/TRCIOB) (io), 28 P0_4/AN3/TREO(/TRCIOB) (io), 29 P0_3/AN4(/CLK1/TRCIOB) (io), 30 P0_2/AN5(/RXD1/TRCIOA/TRCTRG) (io), 31 P0_1/AN6(/TXD1/TRCIOA/TRCTRG) (io), 32 P0_0/AN7(/TRCIOA/TRCTRG) (io)

## R5F21336CDFP
designator U?
R8C/33C Group Single Chip 16-Bit CMOS MCU, 32K + 4K ROM, 2.5K RAM, D Version; Published: 17-Feb-2010; DatasheetVersion: Rev.1.00, Dec-2009; PackageVersion: Oct-2005; PackageReference: PLQP0032GB-A; Publisher: Altium Limited; PackageDescription: 32-Pin Plastic Low Profile QFP, 7 x 7 x 1.4 mm Body, 0.8 mm Pitch; Code_JEITA: P-LQFP32-7x7-0.80; ComponentLink1Description: Manufacturer Link; ComponentLink1URL: http://sg.renesas.com/fmwk.jsp?cnt=r8c_family_landing.jsp&fp=/products/mpumcu/r8c_family/; ComponentLink2Description: Datasheet; ComponentLink2URL: http://documentation.renesas.com/eng/products/mpumcu/rej09b0570_r8c33chm.pdf; ComponentLink3Description: Packaging Specification; ComponentLink3URL: http://sg.renesas.com/media/products/common_info/package/pdf/ic/code/plqp0032gb_a.pdf
footprint PLQP0032GB-A_N (QFP, 32-Leads, Body 7x7mm, Pitch 0.8mm, IPC Medium Density)
footprint PLQP0032GB-A_L (QFP, 32-Leads, Body 7x7mm, Pitch 0.8mm, IPC High Density)
footprint PLQP0032GB-A_M (QFP, 32-Leads, Body 7x7mm, Pitch 0.8mm, IPC Low Density)
pins: 1 P4_2/VREF (in), 2 MODE (in), 3 ~{RESET} (in), 4 P4_7/XOUT(/XCOUT), 5 VSS/AVSS (power), 6 P4_6/XIN(/XCIN) (in), 7 VCC/AVCC (power), 8 P3_7/SDA/SSO/TRAO(/RXD2/SCL2/TXD2/SDA2) (io), 9 P3_5/SCL/SSCK(/CLK2/TRCIOD) (io), 10 P3_4/IVREF3/SSI(/RXD2/SCL2/TXD2/SDA2/TRCIOC) (io), 11 P3_3/IVCMP3/~{INT3}/~{SCS}(/~{CTS2}/~{RTS2}/TRCCLK) (io), 12 P2_2(/TRCIOD) (io), 13 P2_1(/TRCIOC) (io), 14 P2_0(/INT1/TRCIOB) (io), 15 P3_1(/TRBO) (io), 16 P4_5/~{ADTRG}/~{INT0}(/RXD2/SCL2) (io), 17 P1_7/IVCMP1/~{INT1}(/TRAIO) (io), 18 P1_6/IVREF1(/CLK0) (io), 19 P1_5(/~{INT1}/RXD0/TRAIO) (io), 20 P1_4(/TXD0/TRCCLK) (io), 21 P1_3/AN11/~{Kl3}/TRBO(/TRCIOC) (io), 22 P1_2/AN10/~{Kl2}(/TRCIOB) (io), 23 P1_1/AN9/~{KI1}(/TRCIOA/TRCTRG) (io), 24 P1_0/AN8/~{KI0}(/TRCIOD) (io), 25 P0_7/AN0/DA1(/TRCIOC) (io), 26 P0_6/AN1/DA0(/TRCIOD) (io), 27 P0_5/AN2(/TRCIOB) (io), 28 P0_4/AN3/TREO(/TRCIOB) (io), 29 P0_3/AN4(/CLK1/TRCIOB) (io), 30 P0_2/AN5(/RXD1/TRCIOA/TRCTRG) (io), 31 P0_1/AN6(/TXD1/TRCIOA/TRCTRG) (io), 32 P0_0/AN7(/TRCIOA/TRCTRG) (io)

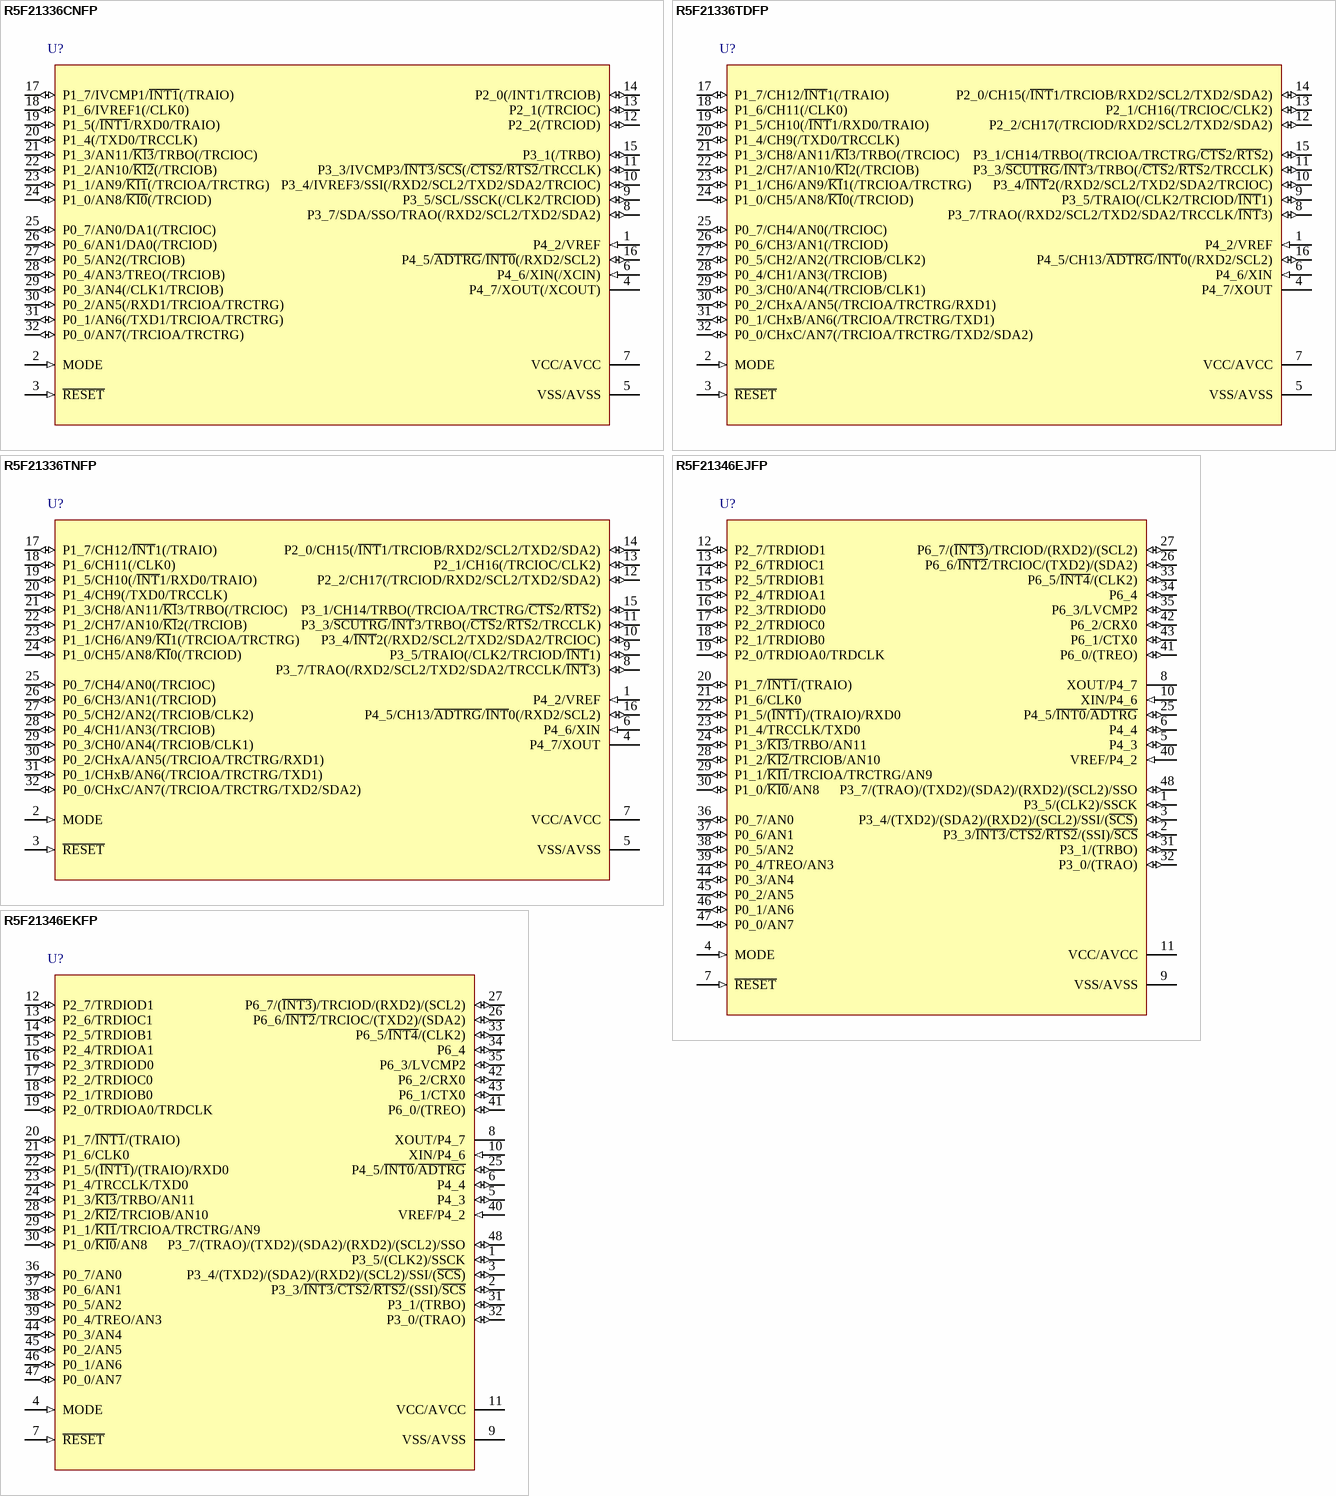
[diagram p94: symbols R5F21336CNFP to R5F21346EKFP]

## R5F21336CNFP
designator U?
R8C/33C Group Single Chip 16-Bit CMOS MCU, 32K + 4K ROM, 2.5K RAM, N Version; Published: 17-Feb-2010; DatasheetVersion: Rev.1.00, Dec-2009; PackageVersion: Oct-2005; PackageReference: PLQP0032GB-A; Publisher: Altium Limited; PackageDescription: 32-Pin Plastic Low Profile QFP, 7 x 7 x 1.4 mm Body, 0.8 mm Pitch; Code_JEITA: P-LQFP32-7x7-0.80; ComponentLink1Description: Manufacturer Link; ComponentLink1URL: http://sg.renesas.com/fmwk.jsp?cnt=r8c_family_landing.jsp&fp=/products/mpumcu/r8c_family/; ComponentLink2Description: Datasheet; ComponentLink2URL: http://documentation.renesas.com/eng/products/mpumcu/rej09b0570_r8c33chm.pdf; ComponentLink3Description: Packaging Specification; ComponentLink3URL: http://sg.renesas.com/media/products/common_info/package/pdf/ic/code/plqp0032gb_a.pdf
footprint PLQP0032GB-A_N (QFP, 32-Leads, Body 7x7mm, Pitch 0.8mm, IPC Medium Density)
footprint PLQP0032GB-A_L (QFP, 32-Leads, Body 7x7mm, Pitch 0.8mm, IPC High Density)
footprint PLQP0032GB-A_M (QFP, 32-Leads, Body 7x7mm, Pitch 0.8mm, IPC Low Density)
pins: 1 P4_2/VREF (in), 2 MODE (in), 3 ~{RESET} (in), 4 P4_7/XOUT(/XCOUT), 5 VSS/AVSS (power), 6 P4_6/XIN(/XCIN) (in), 7 VCC/AVCC (power), 8 P3_7/SDA/SSO/TRAO(/RXD2/SCL2/TXD2/SDA2) (io), 9 P3_5/SCL/SSCK(/CLK2/TRCIOD) (io), 10 P3_4/IVREF3/SSI(/RXD2/SCL2/TXD2/SDA2/TRCIOC) (io), 11 P3_3/IVCMP3/~{INT3}/~{SCS}(/~{CTS2}/~{RTS2}/TRCCLK) (io), 12 P2_2(/TRCIOD) (io), 13 P2_1(/TRCIOC) (io), 14 P2_0(/INT1/TRCIOB) (io), 15 P3_1(/TRBO) (io), 16 P4_5/~{ADTRG}/~{INT0}(/RXD2/SCL2) (io), 17 P1_7/IVCMP1/~{INT1}(/TRAIO) (io), 18 P1_6/IVREF1(/CLK0) (io), 19 P1_5(/~{INT1}/RXD0/TRAIO) (io), 20 P1_4(/TXD0/TRCCLK) (io), 21 P1_3/AN11/~{Kl3}/TRBO(/TRCIOC) (io), 22 P1_2/AN10/~{Kl2}(/TRCIOB) (io), 23 P1_1/AN9/~{KI1}(/TRCIOA/TRCTRG) (io), 24 P1_0/AN8/~{KI0}(/TRCIOD) (io), 25 P0_7/AN0/DA1(/TRCIOC) (io), 26 P0_6/AN1/DA0(/TRCIOD) (io), 27 P0_5/AN2(/TRCIOB) (io), 28 P0_4/AN3/TREO(/TRCIOB) (io), 29 P0_3/AN4(/CLK1/TRCIOB) (io), 30 P0_2/AN5(/RXD1/TRCIOA/TRCTRG) (io), 31 P0_1/AN6(/TXD1/TRCIOA/TRCTRG) (io), 32 P0_0/AN7(/TRCIOA/TRCTRG) (io)

## R5F21336TDFP
designator U?
R8C/33T Group Single Chip 16-Bit CMOS MCU, 32K + 4K ROM, 2.5K RAM, D Version; Published: 17-Feb-2010; DatasheetVersion: Rev.0.10, Jul-2009; PackageVersion: Oct-2005; PackageReference: PLQP0032GB-A; Publisher: Altium Limited; PackageDescription: 32-Pin Plastic Low Profile QFP, 7 x 7 x 1.4 mm Body, 0.8 mm Pitch; Code_JEITA: P-LQFP32-7x7-0.80; ComponentLink1Description: Manufacturer Link; ComponentLink1URL: http://sg.renesas.com/fmwk.jsp?cnt=r8c_family_landing.jsp&fp=/products/mpumcu/r8c_family/; ComponentLink2Description: Datasheet; ComponentLink2URL: http://documentation.renesas.com/eng/products/mpumcu/rej09b0544_r8c33thm.pdf; ComponentLink3Description: Packaging Specification; ComponentLink3URL: http://sg.renesas.com/media/products/common_info/package/pdf/ic/code/plqp0032gb_a.pdf
footprint PLQP0032GB-A_N (QFP, 32-Leads, Body 7x7mm, Pitch 0.8mm, IPC Medium Density)
footprint PLQP0032GB-A_L (QFP, 32-Leads, Body 7x7mm, Pitch 0.8mm, IPC High Density)
footprint PLQP0032GB-A_M (QFP, 32-Leads, Body 7x7mm, Pitch 0.8mm, IPC Low Density)
pins: 1 P4_2/VREF (in), 2 MODE (in), 3 ~{RESET} (in), 4 P4_7/XOUT, 5 VSS/AVSS (power), 6 P4_6/XIN (in), 7 VCC/AVCC (power), 8 P3_7/TRAO(/RXD2/SCL2/TXD2/SDA2/TRCCLK/~{INT}3) (io), 9 P3_5/TRAIO(/CLK2/TRCIOD/~{INT}1) (io), 10 P3_4/~{INT}2(/RXD2/SCL2/TXD2/SDA2/TRCIOC) (io), 11 P3_3/~{SCUTRG}/~{INT}3/TRBO(/~{CTS}2/~{RTS}2/TRCCLK) (io), 12 P2_2/CH17(/TRCIOD/RXD2/SCL2/TXD2/SDA2) (io), 13 P2_1/CH16(/TRCIOC/CLK2) (io), 14 P2_0/CH15(/~{INT}1/TRCIOB/RXD2/SCL2/TXD2/SDA2) (io), 15 P3_1/CH14/TRBO(/TRCIOA/TRCTRG/~{CTS}2/~{RTS}2) (io), 16 P4_5/CH13/~{ADTRG}/~{INT}0(/RXD2/SCL2) (io), 17 P1_7/CH12/~{INT}1(/TRAIO) (io), 18 P1_6/CH11(/CLK0) (io), 19 P1_5/CH10(/~{INT}1/RXD0/TRAIO) (io), 20 P1_4/CH9(/TXD0/TRCCLK) (io), 21 P1_3/CH8/AN11/~{Kl}3/TRBO(/TRCIOC) (io), 22 P1_2/CH7/AN10/~{Kl}2(/TRCIOB) (io), 23 P1_1/CH6/AN9/~{KI}1(/TRCIOA/TRCTRG) (io), 24 P1_0/CH5/AN8/~{KI}0(/TRCIOD) (io), 25 P0_7/CH4/AN0(/TRCIOC) (io), 26 P0_6/CH3/AN1(/TRCIOD) (io), 27 P0_5/CH2/AN2(/TRCIOB/CLK2) (io), 28 P0_4/CH1/AN3(/TRCIOB) (io), 29 P0_3/CH0/AN4(/TRCIOB/CLK1) (io), 30 P0_2/CHxA/AN5(/TRCIOA/TRCTRG/RXD1) (io), 31 P0_1/CHxB/AN6(/TRCIOA/TRCTRG/TXD1) (io), 32 P0_0/CHxC/AN7(/TRCIOA/TRCTRG/TXD2/SDA2) (io)

## R5F21336TNFP
designator U?
R8C/33T Group Single Chip 16-Bit CMOS MCU, 32K + 4K ROM, 2.5K RAM, N Version; Published: 17-Feb-2010; DatasheetVersion: Rev.0.10, Jul-2009; PackageVersion: Oct-2005; PackageReference: PLQP0032GB-A; Publisher: Altium Limited; PackageDescription: 32-Pin Plastic Low Profile QFP, 7 x 7 x 1.4 mm Body, 0.8 mm Pitch; Code_JEITA: P-LQFP32-7x7-0.80; ComponentLink1Description: Manufacturer Link; ComponentLink1URL: http://sg.renesas.com/fmwk.jsp?cnt=r8c_family_landing.jsp&fp=/products/mpumcu/r8c_family/; ComponentLink2Description: Datasheet; ComponentLink2URL: http://documentation.renesas.com/eng/products/mpumcu/rej09b0544_r8c33thm.pdf; ComponentLink3Description: Packaging Specification; ComponentLink3URL: http://sg.renesas.com/media/products/common_info/package/pdf/ic/code/plqp0032gb_a.pdf
footprint PLQP0032GB-A_N (QFP, 32-Leads, Body 7x7mm, Pitch 0.8mm, IPC Medium Density)
footprint PLQP0032GB-A_L (QFP, 32-Leads, Body 7x7mm, Pitch 0.8mm, IPC High Density)
footprint PLQP0032GB-A_M (QFP, 32-Leads, Body 7x7mm, Pitch 0.8mm, IPC Low Density)
pins: 1 P4_2/VREF (in), 2 MODE (in), 3 ~{RESET} (in), 4 P4_7/XOUT, 5 VSS/AVSS (power), 6 P4_6/XIN (in), 7 VCC/AVCC (power), 8 P3_7/TRAO(/RXD2/SCL2/TXD2/SDA2/TRCCLK/~{INT}3) (io), 9 P3_5/TRAIO(/CLK2/TRCIOD/~{INT}1) (io), 10 P3_4/~{INT}2(/RXD2/SCL2/TXD2/SDA2/TRCIOC) (io), 11 P3_3/~{SCUTRG}/~{INT}3/TRBO(/~{CTS}2/~{RTS}2/TRCCLK) (io), 12 P2_2/CH17(/TRCIOD/RXD2/SCL2/TXD2/SDA2) (io), 13 P2_1/CH16(/TRCIOC/CLK2) (io), 14 P2_0/CH15(/~{INT}1/TRCIOB/RXD2/SCL2/TXD2/SDA2) (io), 15 P3_1/CH14/TRBO(/TRCIOA/TRCTRG/~{CTS}2/~{RTS}2) (io), 16 P4_5/CH13/~{ADTRG}/~{INT}0(/RXD2/SCL2) (io), 17 P1_7/CH12/~{INT}1(/TRAIO) (io), 18 P1_6/CH11(/CLK0) (io), 19 P1_5/CH10(/~{INT}1/RXD0/TRAIO) (io), 20 P1_4/CH9(/TXD0/TRCCLK) (io), 21 P1_3/CH8/AN11/~{Kl}3/TRBO(/TRCIOC) (io), 22 P1_2/CH7/AN10/~{Kl}2(/TRCIOB) (io), 23 P1_1/CH6/AN9/~{KI}1(/TRCIOA/TRCTRG) (io), 24 P1_0/CH5/AN8/~{KI}0(/TRCIOD) (io), 25 P0_7/CH4/AN0(/TRCIOC) (io), 26 P0_6/CH3/AN1(/TRCIOD) (io), 27 P0_5/CH2/AN2(/TRCIOB/CLK2) (io), 28 P0_4/CH1/AN3(/TRCIOB) (io), 29 P0_3/CH0/AN4(/TRCIOB/CLK1) (io), 30 P0_2/CHxA/AN5(/TRCIOA/TRCTRG/RXD1) (io), 31 P0_1/CHxB/AN6(/TRCIOA/TRCTRG/TXD1) (io), 32 P0_0/CHxC/AN7(/TRCIOA/TRCTRG/TXD2/SDA2) (io)

## R5F21346EJFP
designator U?
R8C/34E Group Single Chip 16-Bit CMOS MCU, 32K ROM + 1K x4 Data Flash, 2.5K RAM, J Version; Published: 30-Oct-2009; DatasheetVersion: Rev.0.10, Apr-2008; PackageVersion: Oct-2005; PackageReference: PLQP0048KB-A; Publisher: Altium Limited; PackageDescription: 48-Pin Plastic Low Profile QFP, 7 x 7 x 1.4 mm Body, 0.5 mm Pitch; Code_JEITA: P-LQFP48-7x7-0.50; Code_IPC: SQFP50P900X900-48; ComponentLink1Description: Manufacturer Link; ComponentLink1URL: http://sg.renesas.com/fmwk.jsp?cnt=r8c_family_landing.jsp&fp=/products/mpumcu/r8c_family/; ComponentLink2Description: Datasheet; ComponentLink2URL: http://documentation.renesas.com/eng/products/mpumcu/rej03b0246_r8c34ess.pdf; ComponentLink3Description: Packaging Specification; ComponentLink3URL: http://sg.renesas.com/media/products/common_info/package/pdf/ic/code/plqp0048kb_a.pdf
footprint PLQP0048KB-A_N (Shrink QFP, 48-Leads, Body 7x7mm, Pitch 0.5mm, IPC Medium Density)
footprint PLQP0048KB-A_L (Shrink QFP, 48-Leads, Body 7x7mm, Pitch 0.5mm, IPC High Density)
footprint PLQP0048KB-A_M (Shrink QFP, 48-Leads, Body 7x7mm, Pitch 0.5mm, IPC Low Density)
pins: 1 P3_5/(CLK2)/SSCK (io), 2 P3_3/~{INT3}/~{CTS2}/~{RTS2}/(SSI)/~{SCS} (io), 3 P3_4/(TXD2)/(SDA2)/(RXD2)/(SCL2)/SSI/(~{SCS}) (io), 4 MODE (in), 5 P4_3 (io), 6 P4_4 (io), 7 ~{RESET} (in), 8 XOUT/P4_7, 9 VSS/AVSS (power), 10 XIN/P4_6 (in), 11 VCC/AVCC (power), 12 P2_7/TRDIOD1 (io), 13 P2_6/TRDIOC1 (io), 14 P2_5/TRDIOB1 (io), 15 P2_4/TRDIOA1 (io), 16 P2_3/TRDIOD0 (io), 17 P2_2/TRDIOC0 (io), 18 P2_1/TRDIOB0 (io), 19 P2_0/TRDIOA0/TRDCLK (io), 20 P1_7/~{INT1}/(TRAIO) (io), 21 P1_6/CLK0 (io), 22 P1_5/(~{INT1})/(TRAIO)/RXD0 (io), 23 P1_4/TRCCLK/TXD0 (io), 24 P1_3/~{KI3}/TRBO/AN11 (io), 25 P4_5/~{INT0}/~{ADTRG} (io), 26 P6_6/~{INT2}/TRCIOC/(TXD2)/(SDA2) (io), 27 P6_7/(~{INT3})/TRCIOD/(RXD2)/(SCL2) (io), 28 P1_2/~{KI2}/TRCIOB/AN10 (io), 29 P1_1/~{KI1}/TRCIOA/TRCTRG/AN9 (io), 30 P1_0/~{KI0}/AN8 (io), 31 P3_1/(TRBO) (io), 32 P3_0/(TRAO) (io), 33 P6_5/~{INT4}/(CLK2) (io), 34 P6_4 (io), 35 P6_3/LVCMP2 (io), 36 P0_7/AN0 (io), 37 P0_6/AN1 (io), 38 P0_5/AN2 (io), 39 P0_4/TREO/AN3 (io), 40 VREF/P4_2 (in), 41 P6_0/(TREO) (io), 42 P6_2/CRX0 (io), 43 P6_1/CTX0 (io), 44 P0_3/AN4 (io), 45 P0_2/AN5 (io), 46 P0_1/AN6 (io), 47 P0_0/AN7 (io), 48 P3_7/(TRAO)/(TXD2)/(SDA2)/(RXD2)/(SCL2)/SSO (io)

## R5F21346EKFP
designator U?
R8C/34E Group Single Chip 16-Bit CMOS MCU, 32K ROM + 1K x4 Data Flash, 2.5K RAM, K Version; Published: 30-Oct-2009; DatasheetVersion: Rev.0.10, Apr-2008; PackageVersion: Oct-2005; PackageReference: PLQP0048KB-A; Publisher: Altium Limited; PackageDescription: 48-Pin Plastic Low Profile QFP, 7 x 7 x 1.4 mm Body, 0.5 mm Pitch; Code_JEITA: P-LQFP48-7x7-0.50; Code_IPC: SQFP50P900X900-48; ComponentLink1Description: Manufacturer Link; ComponentLink1URL: http://sg.renesas.com/fmwk.jsp?cnt=r8c_family_landing.jsp&fp=/products/mpumcu/r8c_family/; ComponentLink2Description: Datasheet; ComponentLink2URL: http://documentation.renesas.com/eng/products/mpumcu/rej03b0246_r8c34ess.pdf; ComponentLink3Description: Packaging Specification; ComponentLink3URL: http://sg.renesas.com/media/products/common_info/package/pdf/ic/code/plqp0048kb_a.pdf
footprint PLQP0048KB-A_N (Shrink QFP, 48-Leads, Body 7x7mm, Pitch 0.5mm, IPC Medium Density)
footprint PLQP0048KB-A_L (Shrink QFP, 48-Leads, Body 7x7mm, Pitch 0.5mm, IPC High Density)
footprint PLQP0048KB-A_M (Shrink QFP, 48-Leads, Body 7x7mm, Pitch 0.5mm, IPC Low Density)
pins: 1 P3_5/(CLK2)/SSCK (io), 2 P3_3/~{INT3}/~{CTS2}/~{RTS2}/(SSI)/~{SCS} (io), 3 P3_4/(TXD2)/(SDA2)/(RXD2)/(SCL2)/SSI/(~{SCS}) (io), 4 MODE (in), 5 P4_3 (io), 6 P4_4 (io), 7 ~{RESET} (in), 8 XOUT/P4_7, 9 VSS/AVSS (power), 10 XIN/P4_6 (in), 11 VCC/AVCC (power), 12 P2_7/TRDIOD1 (io), 13 P2_6/TRDIOC1 (io), 14 P2_5/TRDIOB1 (io), 15 P2_4/TRDIOA1 (io), 16 P2_3/TRDIOD0 (io), 17 P2_2/TRDIOC0 (io), 18 P2_1/TRDIOB0 (io), 19 P2_0/TRDIOA0/TRDCLK (io), 20 P1_7/~{INT1}/(TRAIO) (io), 21 P1_6/CLK0 (io), 22 P1_5/(~{INT1})/(TRAIO)/RXD0 (io), 23 P1_4/TRCCLK/TXD0 (io), 24 P1_3/~{KI3}/TRBO/AN11 (io), 25 P4_5/~{INT0}/~{ADTRG} (io), 26 P6_6/~{INT2}/TRCIOC/(TXD2)/(SDA2) (io), 27 P6_7/(~{INT3})/TRCIOD/(RXD2)/(SCL2) (io), 28 P1_2/~{KI2}/TRCIOB/AN10 (io), 29 P1_1/~{KI1}/TRCIOA/TRCTRG/AN9 (io), 30 P1_0/~{KI0}/AN8 (io), 31 P3_1/(TRBO) (io), 32 P3_0/(TRAO) (io), 33 P6_5/~{INT4}/(CLK2) (io), 34 P6_4 (io), 35 P6_3/LVCMP2 (io), 36 P0_7/AN0 (io), 37 P0_6/AN1 (io), 38 P0_5/AN2 (io), 39 P0_4/TREO/AN3 (io), 40 VREF/P4_2 (in), 41 P6_0/(TREO) (io), 42 P6_2/CRX0 (io), 43 P6_1/CTX0 (io), 44 P0_3/AN4 (io), 45 P0_2/AN5 (io), 46 P0_1/AN6 (io), 47 P0_0/AN7 (io), 48 P3_7/(TRAO)/(TXD2)/(SDA2)/(RXD2)/(SCL2)/SSO (io)

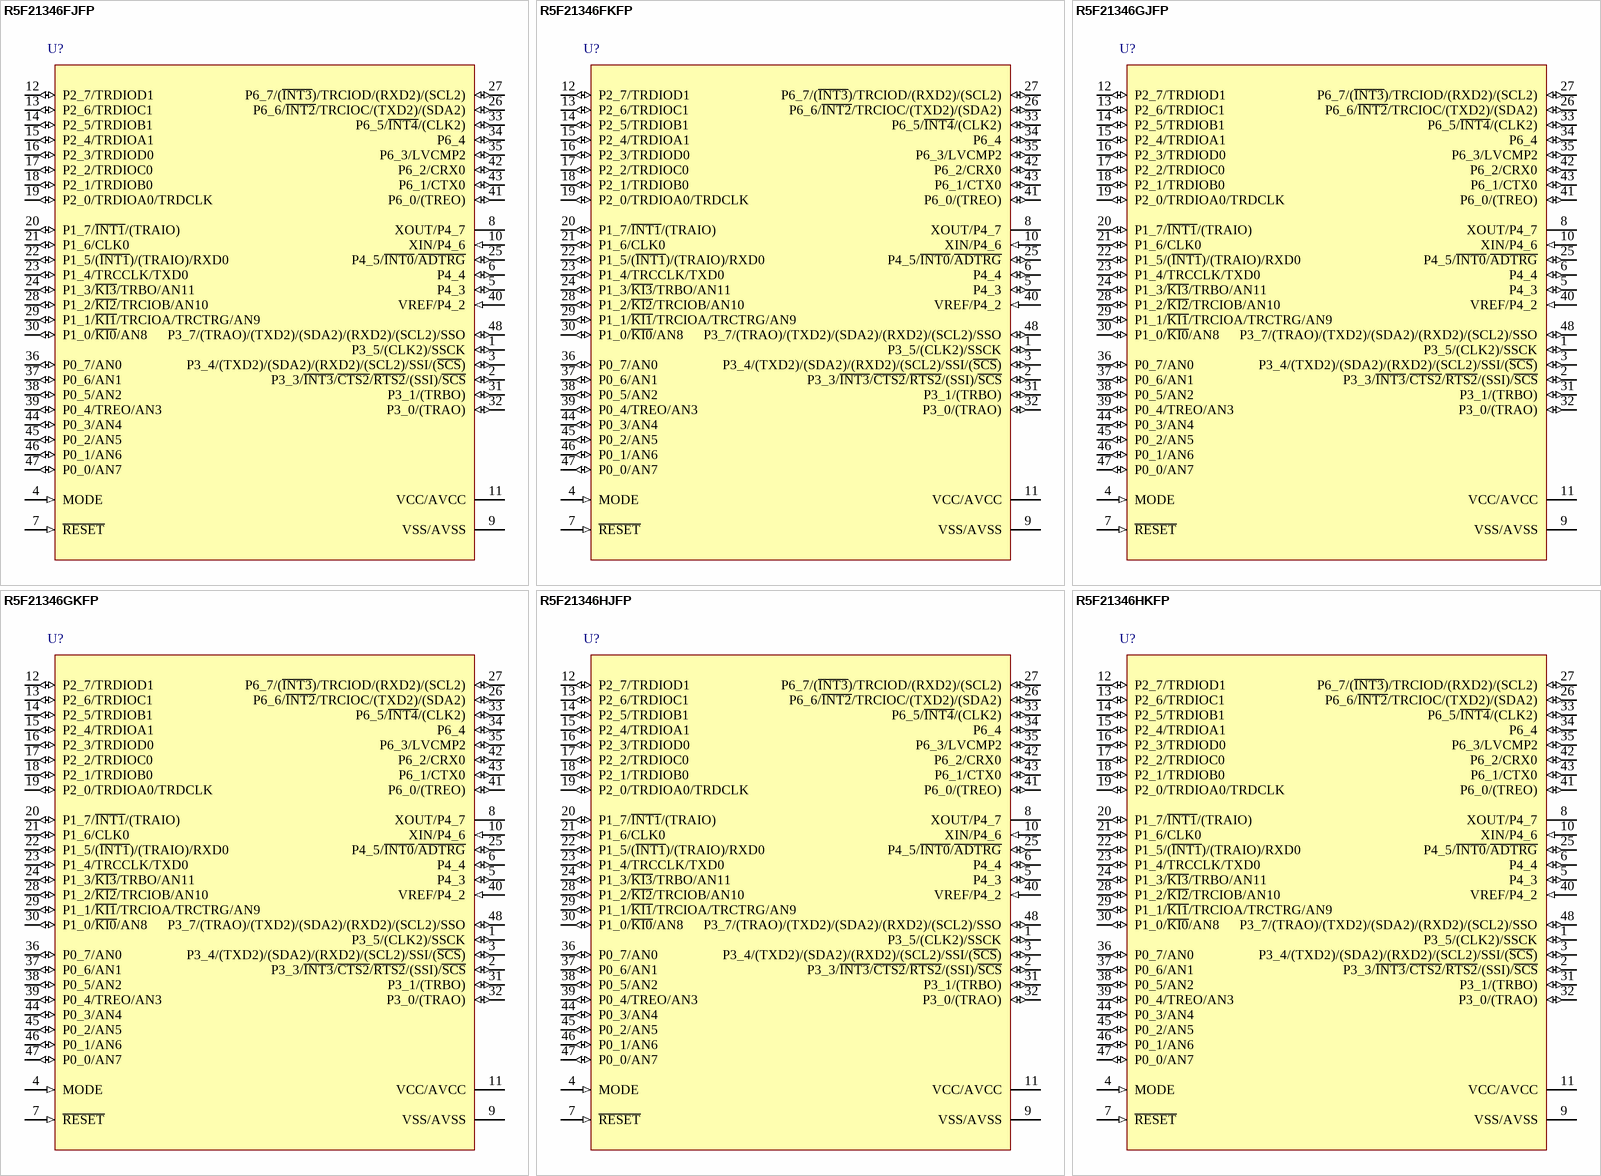
[diagram p95: symbols R5F21346FJFP to R5F21346HKFP]

## R5F21346FJFP
designator U?
R8C/34F Group Single Chip 16-Bit CMOS MCU, 32K ROM, 2.5K RAM, J Version; Published: 30-Oct-2009; DatasheetVersion: Rev.0.10, Apr-2008; PackageVersion: Oct-2005; PackageReference: PLQP0048KB-A; Publisher: Altium Limited; PackageDescription: 48-Pin Plastic Low Profile QFP, 7 x 7 x 1.4 mm Body, 0.5 mm Pitch; Code_JEITA: P-LQFP48-7x7-0.50; Code_IPC: SQFP50P900X900-48; ComponentLink1Description: Manufacturer Link; ComponentLink1URL: http://sg.renesas.com/fmwk.jsp?cnt=r8c_family_landing.jsp&fp=/products/mpumcu/r8c_family/; ComponentLink2Description: Datasheet; ComponentLink2URL: http://documentation.renesas.com/eng/products/mpumcu/rej03b0246_r8c34ess.pdf; ComponentLink3Description: Packaging Specification; ComponentLink3URL: http://sg.renesas.com/media/products/common_info/package/pdf/ic/code/plqp0048kb_a.pdf
footprint PLQP0048KB-A_N (Shrink QFP, 48-Leads, Body 7x7mm, Pitch 0.5mm, IPC Medium Density)
footprint PLQP0048KB-A_L (Shrink QFP, 48-Leads, Body 7x7mm, Pitch 0.5mm, IPC High Density)
footprint PLQP0048KB-A_M (Shrink QFP, 48-Leads, Body 7x7mm, Pitch 0.5mm, IPC Low Density)
pins: 1 P3_5/(CLK2)/SSCK (io), 2 P3_3/~{INT3}/~{CTS2}/~{RTS2}/(SSI)/~{SCS} (io), 3 P3_4/(TXD2)/(SDA2)/(RXD2)/(SCL2)/SSI/(~{SCS}) (io), 4 MODE (in), 5 P4_3 (io), 6 P4_4 (io), 7 ~{RESET} (in), 8 XOUT/P4_7, 9 VSS/AVSS (power), 10 XIN/P4_6 (in), 11 VCC/AVCC (power), 12 P2_7/TRDIOD1 (io), 13 P2_6/TRDIOC1 (io), 14 P2_5/TRDIOB1 (io), 15 P2_4/TRDIOA1 (io), 16 P2_3/TRDIOD0 (io), 17 P2_2/TRDIOC0 (io), 18 P2_1/TRDIOB0 (io), 19 P2_0/TRDIOA0/TRDCLK (io), 20 P1_7/~{INT1}/(TRAIO) (io), 21 P1_6/CLK0 (io), 22 P1_5/(~{INT1})/(TRAIO)/RXD0 (io), 23 P1_4/TRCCLK/TXD0 (io), 24 P1_3/~{KI3}/TRBO/AN11 (io), 25 P4_5/~{INT0}/~{ADTRG} (io), 26 P6_6/~{INT2}/TRCIOC/(TXD2)/(SDA2) (io), 27 P6_7/(~{INT3})/TRCIOD/(RXD2)/(SCL2) (io), 28 P1_2/~{KI2}/TRCIOB/AN10 (io), 29 P1_1/~{KI1}/TRCIOA/TRCTRG/AN9 (io), 30 P1_0/~{KI0}/AN8 (io), 31 P3_1/(TRBO) (io), 32 P3_0/(TRAO) (io), 33 P6_5/~{INT4}/(CLK2) (io), 34 P6_4 (io), 35 P6_3/LVCMP2 (io), 36 P0_7/AN0 (io), 37 P0_6/AN1 (io), 38 P0_5/AN2 (io), 39 P0_4/TREO/AN3 (io), 40 VREF/P4_2 (in), 41 P6_0/(TREO) (io), 42 P6_2/CRX0 (io), 43 P6_1/CTX0 (io), 44 P0_3/AN4 (io), 45 P0_2/AN5 (io), 46 P0_1/AN6 (io), 47 P0_0/AN7 (io), 48 P3_7/(TRAO)/(TXD2)/(SDA2)/(RXD2)/(SCL2)/SSO (io)